# Altium integrated library adafruit.Library.IntLib: 666 symbols (part 3 of 6)
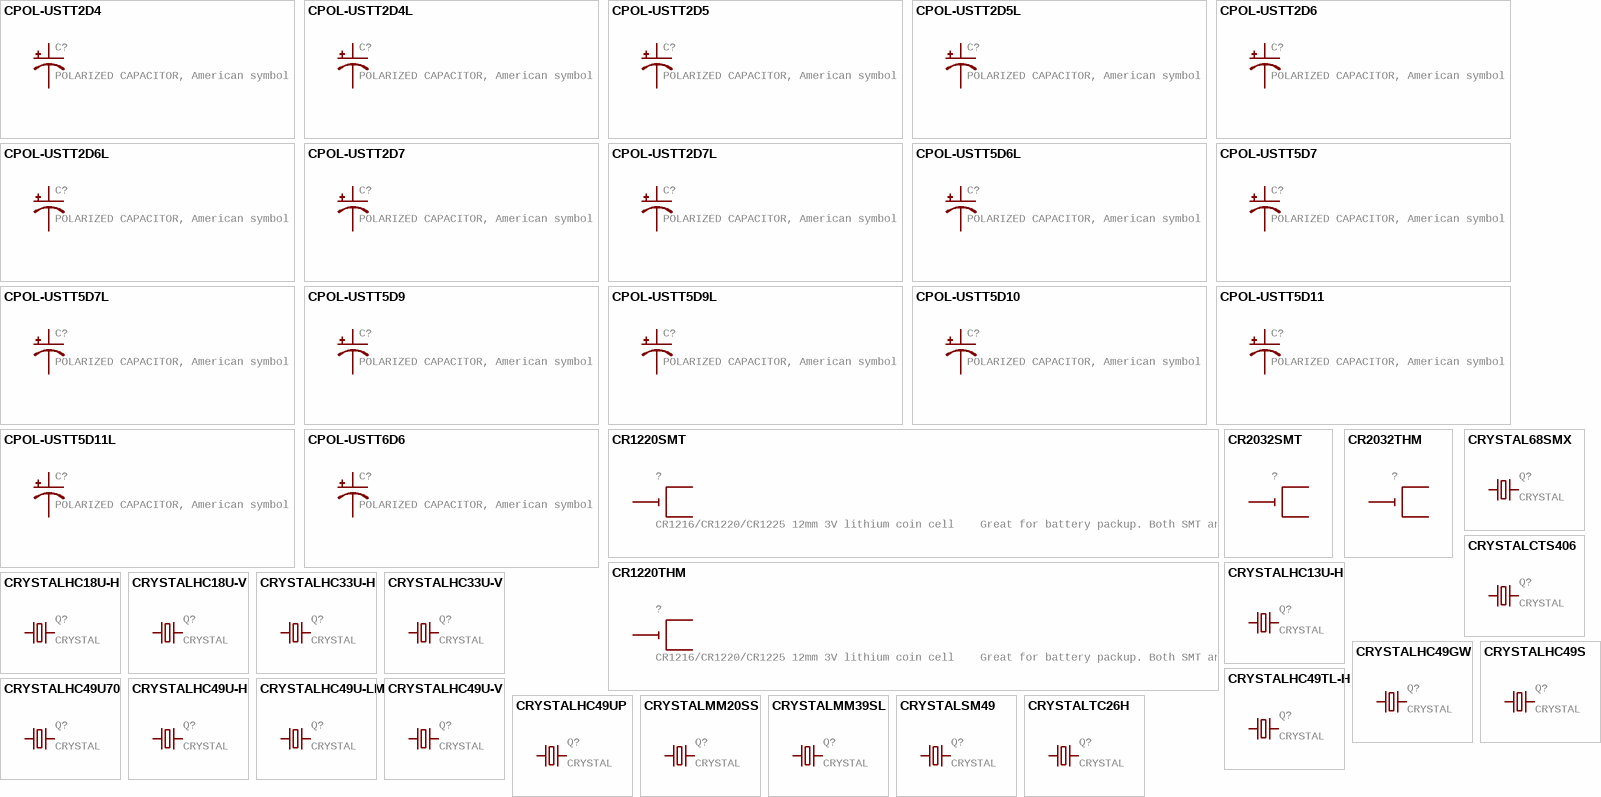
[diagram p29: symbols CPOL-USTT2D4 to CRYSTALTC26H]

## CRYSTALSM49
designator Q?, comment CRYSTAL
GateName_1: G$1; SymbolName_1: Q; DeviceName: SM49; LibraryName: adafruit; DeviceSetName: CRYSTAL; Package: SM49; OC_FARNELL: unknown; OC_NEWARK: unknown
footprint SM49
pins: 1, 2

## CRYSTALTC26H
designator Q?, comment CRYSTAL
GateName_1: G$1; SymbolName_1: Q; DeviceName: TC26H; LibraryName: adafruit; DeviceSetName: CRYSTAL; Package: TC26H; OC_FARNELL: unknown; OC_NEWARK: unknown
footprint TC26H
pins: 1, 2

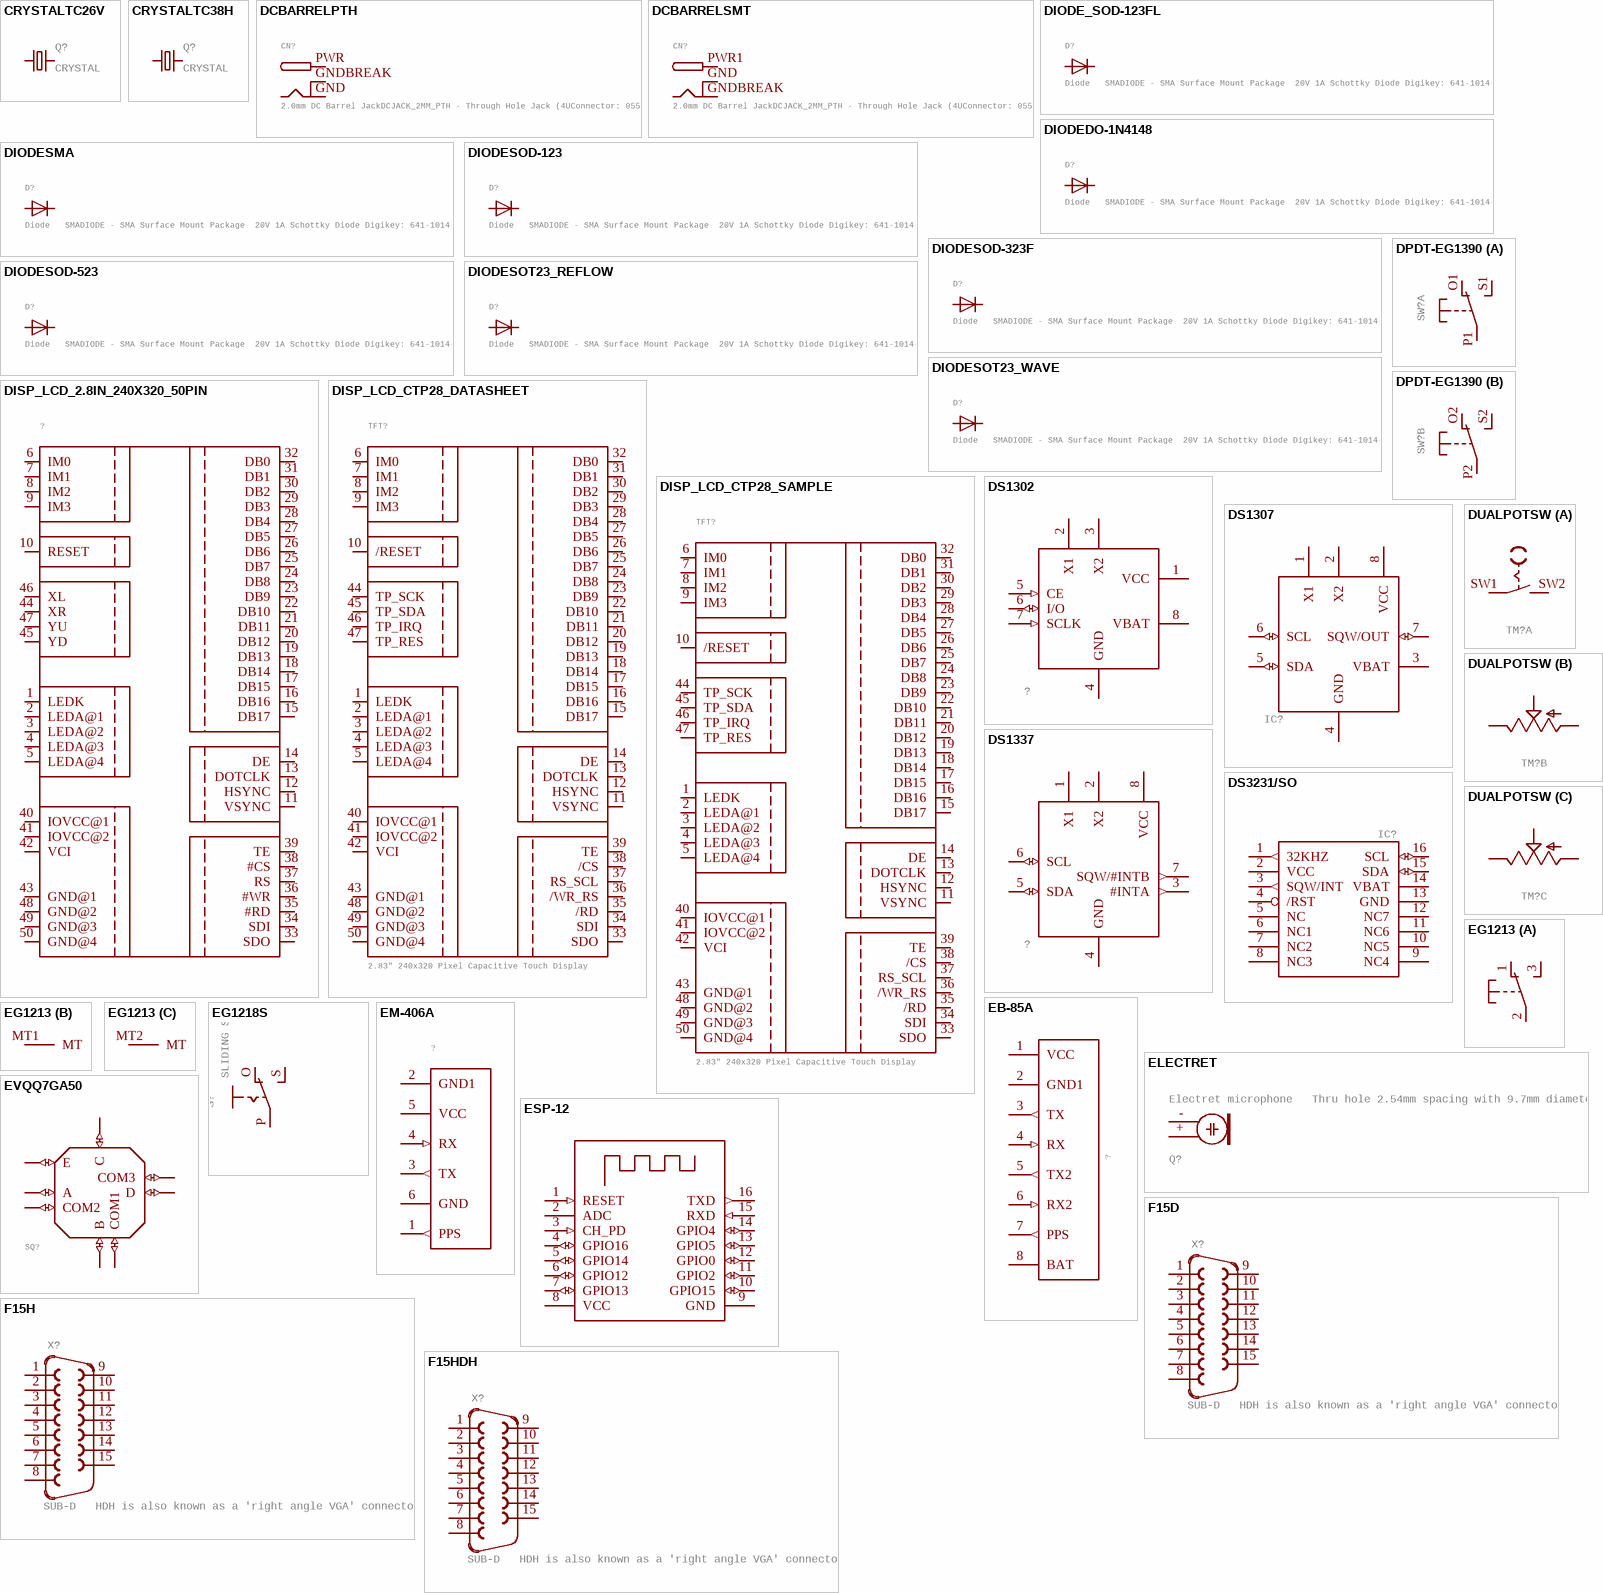
[diagram p14: symbols CRYSTALTC26V to F15HDH]

## CRYSTALTC26V
designator Q?, comment CRYSTAL
GateName_1: G$1; SymbolName_1: Q; DeviceName: TC26V; LibraryName: adafruit; DeviceSetName: CRYSTAL; Package: TC26V; OC_FARNELL: unknown; OC_NEWARK: unknown
footprint TC26V
pins: 1, 2

## CRYSTALTC38H
designator Q?, comment CRYSTAL
GateName_1: G$1; SymbolName_1: Q; DeviceName: TC38H; LibraryName: adafruit; DeviceSetName: CRYSTAL; Package: TC38H; OC_FARNELL: unknown; OC_NEWARK: unknown
footprint TC38H
pins: 1, 2

## DCBARRELPTH
designator CN?, comment 2.0mm DC Barrel JackDCJACK_2MM_PTH - Through Hole Jack (4UConnector: 05537)
GateName_1: G$1; DeviceName: PTH; SymbolName_1: DCBARREL; LibraryName: adafruit; DeviceSetName: DCBARREL; Package: DCJACK_2MM_PTH
footprint DCJACK_2MM_PTH
pins: GND (power), GNDBREAK (power), PWR (power)

## DCBARRELSMT
designator CN?, comment 2.0mm DC Barrel JackDCJACK_2MM_PTH - Through Hole Jack (4UConnector: 05537)
GateName_1: G$1; DeviceName: SMT; SymbolName_1: DCBARREL; LibraryName: adafruit; DeviceSetName: DCBARREL; Package: DCJACK_2MM_SMT
footprint DCJACK_2MM_SMT
pins: GND GNDBREAK (power), GNDBREAK GND (power), PWR1 PWR (power)

## DIODE_SOD-123FL
designator D?, comment Diode   SMADIODE - SMA Surface Mount Package  20V 1A Schottky Diode Digikey: 641-1014-6-ND    DO-1N4148 - Through Hole Small Current Diode SOD-123 20V 1 A (.5mV Vf) Schottky Diode - Digikey: MBRX120TPMSCT-ND    SOD-323 10V 570mA (.38mV Vf, 3ns) Schottky Diode - Digikey: ZLLS410CT-ND    SOD-523 30V 30mA Schottky Diode (RB751S-40TE61) - Digikey: RB751S-40TE61CT-ND    SOT23-R/W - SOT23 Package (R = Solder Paste/Reflow Ovens, W = Hand-Soldering)  BAT54Film 40V 300mA - Digikey: 497-7162-1-ND
GateName_1: G$1; DeviceName: _SOD-123FL; SymbolName_1: DIODE; LibraryName: adafruit; DeviceSetName: DIODE; Package: SOD-123FL
footprint SOD-123FL
pins: A, C

## DIODEDO-1N4148
designator D?, comment Diode   SMADIODE - SMA Surface Mount Package  20V 1A Schottky Diode Digikey: 641-1014-6-ND    DO-1N4148 - Through Hole Small Current Diode SOD-123 20V 1 A (.5mV Vf) Schottky Diode - Digikey: MBRX120TPMSCT-ND    SOD-323 10V 570mA (.38mV Vf, 3ns) Schottky Diode - Digikey: ZLLS410CT-ND    SOD-523 30V 30mA Schottky Diode (RB751S-40TE61) - Digikey: RB751S-40TE61CT-ND    SOT23-R/W - SOT23 Package (R = Solder Paste/Reflow Ovens, W = Hand-Soldering)  BAT54Film 40V 300mA - Digikey: 497-7162-1-ND
GateName_1: G$1; SymbolName_1: DIODE; DeviceName: DO-1N4148; LibraryName: adafruit; DeviceSetName: DIODE; Package: DO-1N4148
footprint DO-1N4148
pins: A, C

## DIODESMA
designator D?, comment Diode   SMADIODE - SMA Surface Mount Package  20V 1A Schottky Diode Digikey: 641-1014-6-ND    DO-1N4148 - Through Hole Small Current Diode SOD-123 20V 1 A (.5mV Vf) Schottky Diode - Digikey: MBRX120TPMSCT-ND    SOD-323 10V 570mA (.38mV Vf, 3ns) Schottky Diode - Digikey: ZLLS410CT-ND    SOD-523 30V 30mA Schottky Diode (RB751S-40TE61) - Digikey: RB751S-40TE61CT-ND    SOT23-R/W - SOT23 Package (R = Solder Paste/Reflow Ovens, W = Hand-Soldering)  BAT54Film 40V 300mA - Digikey: 497-7162-1-ND
GateName_1: G$1; SymbolName_1: DIODE; DeviceName: SMA; LibraryName: adafruit; DeviceSetName: DIODE; Package: SMADIODE
footprint SMADIODE
pins: A, C

## DIODESOD-123
designator D?, comment Diode   SMADIODE - SMA Surface Mount Package  20V 1A Schottky Diode Digikey: 641-1014-6-ND    DO-1N4148 - Through Hole Small Current Diode SOD-123 20V 1 A (.5mV Vf) Schottky Diode - Digikey: MBRX120TPMSCT-ND    SOD-323 10V 570mA (.38mV Vf, 3ns) Schottky Diode - Digikey: ZLLS410CT-ND    SOD-523 30V 30mA Schottky Diode (RB751S-40TE61) - Digikey: RB751S-40TE61CT-ND    SOT23-R/W - SOT23 Package (R = Solder Paste/Reflow Ovens, W = Hand-Soldering)  BAT54Film 40V 300mA - Digikey: 497-7162-1-ND
GateName_1: G$1; SymbolName_1: DIODE; DeviceName: SOD-123; LibraryName: adafruit; DeviceSetName: DIODE; Package: SOD-123
footprint SOD-123
pins: A, C

## DIODESOD-323F
designator D?, comment Diode   SMADIODE - SMA Surface Mount Package  20V 1A Schottky Diode Digikey: 641-1014-6-ND    DO-1N4148 - Through Hole Small Current Diode SOD-123 20V 1 A (.5mV Vf) Schottky Diode - Digikey: MBRX120TPMSCT-ND    SOD-323 10V 570mA (.38mV Vf, 3ns) Schottky Diode - Digikey: ZLLS410CT-ND    SOD-523 30V 30mA Schottky Diode (RB751S-40TE61) - Digikey: RB751S-40TE61CT-ND    SOT23-R/W - SOT23 Package (R = Solder Paste/Reflow Ovens, W = Hand-Soldering)  BAT54Film 40V 300mA - Digikey: 497-7162-1-ND
GateName_1: G$1; DeviceName: SOD-323F; SymbolName_1: DIODE; LibraryName: adafruit; DeviceSetName: DIODE; Package: SOD-323F
footprint SOD-323F
pins: A, C

## DIODESOD-523
designator D?, comment Diode   SMADIODE - SMA Surface Mount Package  20V 1A Schottky Diode Digikey: 641-1014-6-ND    DO-1N4148 - Through Hole Small Current Diode SOD-123 20V 1 A (.5mV Vf) Schottky Diode - Digikey: MBRX120TPMSCT-ND    SOD-323 10V 570mA (.38mV Vf, 3ns) Schottky Diode - Digikey: ZLLS410CT-ND    SOD-523 30V 30mA Schottky Diode (RB751S-40TE61) - Digikey: RB751S-40TE61CT-ND    SOT23-R/W - SOT23 Package (R = Solder Paste/Reflow Ovens, W = Hand-Soldering)  BAT54Film 40V 300mA - Digikey: 497-7162-1-ND
GateName_1: G$1; SymbolName_1: DIODE; DeviceName: SOD-523; LibraryName: adafruit; DeviceSetName: DIODE; Package: SOD-523
footprint SOD-523
pins: A, K C

## DIODESOT23_REFLOW
designator D?, comment Diode   SMADIODE - SMA Surface Mount Package  20V 1A Schottky Diode Digikey: 641-1014-6-ND    DO-1N4148 - Through Hole Small Current Diode SOD-123 20V 1 A (.5mV Vf) Schottky Diode - Digikey: MBRX120TPMSCT-ND    SOD-323 10V 570mA (.38mV Vf, 3ns) Schottky Diode - Digikey: ZLLS410CT-ND    SOD-523 30V 30mA Schottky Diode (RB751S-40TE61) - Digikey: RB751S-40TE61CT-ND    SOT23-R/W - SOT23 Package (R = Solder Paste/Reflow Ovens, W = Hand-Soldering)  BAT54Film 40V 300mA - Digikey: 497-7162-1-ND
GateName_1: G$1; DeviceName: SOT23_REFLOW; SymbolName_1: DIODE; LibraryName: adafruit; DeviceSetName: DIODE; Package: SOT23-R
footprint SOT23-R
pins: 1 A, 3 C

## DIODESOT23_WAVE
designator D?, comment Diode   SMADIODE - SMA Surface Mount Package  20V 1A Schottky Diode Digikey: 641-1014-6-ND    DO-1N4148 - Through Hole Small Current Diode SOD-123 20V 1 A (.5mV Vf) Schottky Diode - Digikey: MBRX120TPMSCT-ND    SOD-323 10V 570mA (.38mV Vf, 3ns) Schottky Diode - Digikey: ZLLS410CT-ND    SOD-523 30V 30mA Schottky Diode (RB751S-40TE61) - Digikey: RB751S-40TE61CT-ND    SOT23-R/W - SOT23 Package (R = Solder Paste/Reflow Ovens, W = Hand-Soldering)  BAT54Film 40V 300mA - Digikey: 497-7162-1-ND
GateName_1: G$1; DeviceName: SOT23_WAVE; SymbolName_1: DIODE; LibraryName: adafruit; DeviceSetName: DIODE; Package: SOT23-W
footprint SOT23-W
pins: 1 A, 3 C

## DISP_LCD_2.8IN_240X320_50PIN
designator ?
GateName_1: G$1; SymbolName_1: TFT_2.83IN_240X320_50PIN; DeviceSetName: DISP_LCD_2.8IN_240X320_50PIN; LibraryName: adafruit; Package: TFT_2.83IN_240X320_50PIN
footprint TFT_2.83IN_240X320_50PIN
pins: 1 LEDK (io), 2 LEDA@1 (io), 3 LEDA@2 (io), 4 LEDA@3 (io), 5 LEDA@4 (io), 6 IM0 (io), 7 IM1 (io), 8 IM2 (io), 9 IM3 (io), 10 RESET (io), 11 VSYNC (io), 12 HSYNC (io), 13 DOTCLK (io), 14 DE (io), 15 DB17 (io), 16 DB16 (io), 17 DB15 (io), 18 DB14 (io), 19 DB13 (io), 20 DB12 (io), 21 DB11 (io), 22 DB10 (io), 23 DB9 (io), 24 DB8 (io), 25 DB7 (io), 26 DB6 (io), 27 DB5 (io), 28 DB4 (io), 29 DB3 (io), 30 DB2 (io), 31 DB1 (io), 32 DB0 (io), 33 SDO (io), 34 SDI (io), 35 #RD (io), 36 #WR (io), 37 RS (io), 38 #CS (io), 39 TE (io), 40 IOVCC@1 (io), 41 IOVCC@2 (io), 42 VCI (io), 43 GND@1 (io), 44 XR (io), 45 YD (io), 46 XL (io), 47 YU (io), 48 GND@2 (io), 49 GND@3 (io), 50 GND@4 (io)

## DISP_LCD_CTP28_DATASHEET
designator TFT?, comment 2.83" 240x320 Pixel Capacitive Touch Display
GateName_1: G$1; SymbolName_1: TFT_CTP28_240X320_50PIN; DeviceName: _DATASHEET; DeviceSetName: DISP_LCD_CTP28; LibraryName: adafruit; Package: TFT_CTP28
footprint TFT_CTP28
pins: 1 LEDK (io), 2 LEDA@1 (io), 3 LEDA@2 (io), 4 LEDA@3 (io), 5 LEDA@4 (io), 6 IM0 (io), 7 IM1 (io), 8 IM2 (io), 9 IM3 (io), 10 /RESET (io), 11 VSYNC (io), 12 HSYNC (io), 13 DOTCLK (io), 14 DE (io), 15 DB17 (io), 16 DB16 (io), 17 DB15 (io), 18 DB14 (io), 19 DB13 (io), 20 DB12 (io), 21 DB11 (io), 22 DB10 (io), 23 DB9 (io), 24 DB8 (io), 25 DB7 (io), 26 DB6 (io), 27 DB5 (io), 28 DB4 (io), 29 DB3 (io), 30 DB2 (io), 31 DB1 (io), 32 DB0 (io), 33 SDO (io), 34 SDI (io), 35 /RD (io), 36 /WR_RS (io), 37 RS_SCL (io), 38 /CS (io), 39 TE (io), 40 IOVCC@1 (io), 41 IOVCC@2 (io), 42 VCI (io), 43 GND@1 (io), 44 TP_SCK (io), 45 TP_SDA (io), 46 TP_IRQ (io), 47 TP_RES (io), 48 GND@2 (io), 49 GND@3 (io), 50 GND@4 (io)

## DISP_LCD_CTP28_SAMPLE
designator TFT?, comment 2.83" 240x320 Pixel Capacitive Touch Display
GateName_1: G$1; SymbolName_1: TFT_CTP28_240X320_50PIN; DeviceName: _SAMPLE; DeviceSetName: DISP_LCD_CTP28; LibraryName: adafruit; Package: TFT_2.83IN_240X320_50PIN
footprint TFT_2.83IN_240X320_50PIN
pins: 1 LEDK (io), 2 LEDA@1 (io), 3 LEDA@2 (io), 4 LEDA@3 (io), 5 LEDA@4 (io), 6 IM0 (io), 7 IM1 (io), 8 IM2 (io), 9 IM3 (io), 10 /RESET (io), 11 VSYNC (io), 12 HSYNC (io), 13 DOTCLK (io), 14 DE (io), 15 DB17 (io), 16 DB16 (io), 17 DB15 (io), 18 DB14 (io), 19 DB13 (io), 20 DB12 (io), 21 DB11 (io), 22 DB10 (io), 23 DB9 (io), 24 DB8 (io), 25 DB7 (io), 26 DB6 (io), 27 DB5 (io), 28 DB4 (io), 29 DB3 (io), 30 DB2 (io), 31 DB1 (io), 32 DB0 (io), 33 SDO (io), 34 SDI (io), 35 /RD (io), 36 /WR_RS (io), 37 RS_SCL (io), 38 /CS (io), 39 TE (io), 40 IOVCC@1 (io), 41 IOVCC@2 (io), 42 VCI (io), 43 GND@1 (io), 44 TP_SCK (io), 45 TP_SDA (io), 46 TP_IRQ (io), 47 TP_RES (io), 48 GND@2 (io), 49 GND@3 (io), 50 GND@4 (io)

## DPDT-EG1390
designator SW?
GateName_1: 1; SymbolName_1: TSU; GateName_2: 2; DeviceName: -EG1390; DeviceSetName: DPDT; SymbolName_2: TSU; LibraryName: adafruit; Package: EG1390
footprint EG1390
part A pins: O1 O, P1 P, S1 S
part B pins: O2 O, P2 P, S2 S

## DS1302
designator ?, comment DS1302 - Real time clock with supercap trickle charger  (value not drawn)
GateName_1: G$1; SymbolName_1: DS1302; LibraryName: adafruit; DeviceSetName: DS1302; Package: DIL08-ROUND
footprint DIL08-ROUND
pins: 1 VCC (power), 2 X1, 3 X2, 4 GND (power), 5 CE (in), 6 I/O (io), 7 SCLK (in), 8 VBAT (power)

## DS1307
designator IC?, comment DS1307   Real time clock (RTC) with battery backup ability. Talk to it via i2c  (value not drawn)
GateName_1: G$1; SymbolName_1: DS1307; LibraryName: adafruit; DeviceSetName: DS1307; Package: DIL08
footprint DIL08
pins: 1 X1, 2 X2, 3 VBAT (power), 4 GND (power), 5 SDA (io), 6 SCL (io), 7 SQW/OUT (io), 8 VCC (power)

## DS1337
designator ?, comment DS1337 - Maxim RTC without battery backup  (value not drawn)
GateName_1: G$1; SymbolName_1: DS1337; LibraryName: adafruit; DeviceSetName: DS1337; Package: DIL08-ROUND
footprint DIL08-ROUND
pins: 1 X1, 2 X2, 3 #INTA (out), 4 GND (power), 5 SDA (io), 6 SCL (io), 7 SQW/#INTB (out), 8 VCC (power)

## DS3231/SO
designator IC?
GateName_1: G$1; SymbolName_1: DS3231; DeviceName: /SO; LibraryName: adafruit; DeviceSetName: DS3231; Package: SO16W
footprint SO16W
pins: 1 32KHZ (out), 2 VCC (power), 3 SQW/INT (out), 4 /RST, 5 NC, 6 NC1, 7 NC2, 8 NC3, 9 NC4, 10 NC5, 11 NC6, 12 NC7, 13 GND (power), 14 VBAT (power), 15 SDA (io), 16 SCL (io)

## DUALPOTSW
designator TM?
GateName_1: SW; GateName_2: P2; SymbolName_2: POT; GateName_3: P1; DeviceSetName: DUALPOTSW; SymbolName_1: SW; SymbolName_3: POT; LibraryName: adafruit; Package: RK0971221
footprint RK0971221
part A pins: SW1 P, SW2 S
part B pins: A2 E, B2 A, W2 S
part C pins: A1 E, B1 A, W1 S

## EB-85A
designator ?
GateName_1: G$1; SymbolName_1: EB-85A; LibraryName: adafruit; DeviceSetName: EB-85A; Package: JST-8POS
footprint JST-8POS
pins: 1 VCC (power), 2 GND1 (power), 3 TX (out), 4 RX (in), 5 TX2 (out), 6 RX2 (in), 7 PPS (out), 8 BAT (power)

## EG1213
designator S?, comment E-Switch right-angle slide SPDT Part #EG1213    http://www.ladyada.net/library/eagle  (value not drawn)
GateName_1: 1; SymbolName_1: TSU; GateName_2: G$1; SymbolName_2: MT; GateName_3: G$2; DeviceSetName: EG1213; SymbolName_3: MT; LibraryName: adafruit; Package: EG1213
footprint EG1213
part A pins: 1 O, 2 P, 3 S
part B pins: MT1 MT
part C pins: MT2 MT

## EG1218S
designator S?, comment SLIDING SWITCH   0.1" spacing through hole, vertical SPDT slide switch    http://www.ladyada.net/library/pcb/eaglelibrary.html
GateName_1: 1; SymbolName_1: SIS; DeviceName: S; DeviceSetName: EG1218; LibraryName: adafruit; Package: EG1218
footprint EG1218
pins: O, P, S

## ELECTRET
designator Q?, comment Electret microphone   Thru hole 2.54mm spacing with 9.7mm diameter
GateName_1: G$1; SymbolName_1: ELECTRET; LibraryName: adafruit; DeviceSetName: ELECTRET; Package: 9.7ELECTRET
footprint 9.7ELECTRET
pins: + 2, - 1

## EM-406A
designator ?
GateName_1: G$1; SymbolName_1: EM-406A; LibraryName: adafruit; DeviceSetName: EM-406A; Package: JST-6POS
footprint JST-6POS
pins: 1 PPS (out), 2 GND1 (power), 3 TX (out), 4 RX (in), 5 VCC (power), 6 GND (power)

## ESP-12
designator X?
GateName_1: G$1; SymbolName_1: ESP8266-12; DeviceSetName: ESP-12; LibraryName: adafruit; Package: ESP-12
footprint ESP-12
pins: 1 RESET (in), 2 ADC, 3 CH_PD (in), 4 GPIO16 (io), 5 GPIO14 (io), 6 GPIO12 (io), 7 GPIO13 (io), 8 VCC (power), 9 GND (power), 10 GPIO15 (io), 11 GPIO2 (io), 12 GPIO0 (io), 13 GPIO5 (io), 14 GPIO4 (io), 15 RXD (in), 16 TXD (out)

## EVQQ7GA50
designator SQ?
GateName_1: G$1; SymbolName_1: NAVSWITCH; DeviceName: GA50; DeviceSetName: EVQQ7; LibraryName: adafruit; Package: EVQQ7GA50
footprint EVQQ7GA50
pins: A (io), B (io), C (io), COM1 (io), COM2 (io), COM3 (io), D (io), E (io)

## F15D
designator X?, comment SUB-D   HDH is also known as a 'right angle VGA' connector
GateName_1: -1; SymbolName_1: F15; DeviceName: D; LibraryName: adafruit; DeviceSetName: F15; Package: F15D
footprint F15D
pins: 1, 2, 3, 4, 5, 6, 7, 8, 9, 10, 11, 12, 13, 14, 15

## F15H
designator X?, comment SUB-D   HDH is also known as a 'right angle VGA' connector
GateName_1: -1; SymbolName_1: F15; DeviceName: H; LibraryName: adafruit; DeviceSetName: F15; Package: F15H
footprint F15H
pins: 1, 2, 3, 4, 5, 6, 7, 8, 9, 10, 11, 12, 13, 14, 15

## F15HDH
designator X?, comment SUB-D   HDH is also known as a 'right angle VGA' connector
GateName_1: -1; SymbolName_1: F15; DeviceName: HDH; LibraryName: adafruit; DeviceSetName: F15; Package: HDF15H
footprint HDF15H
pins: 1, 2, 3, 4, 5, 6, 7, 8, 9, 10, 11, 12, 13, 14, 15

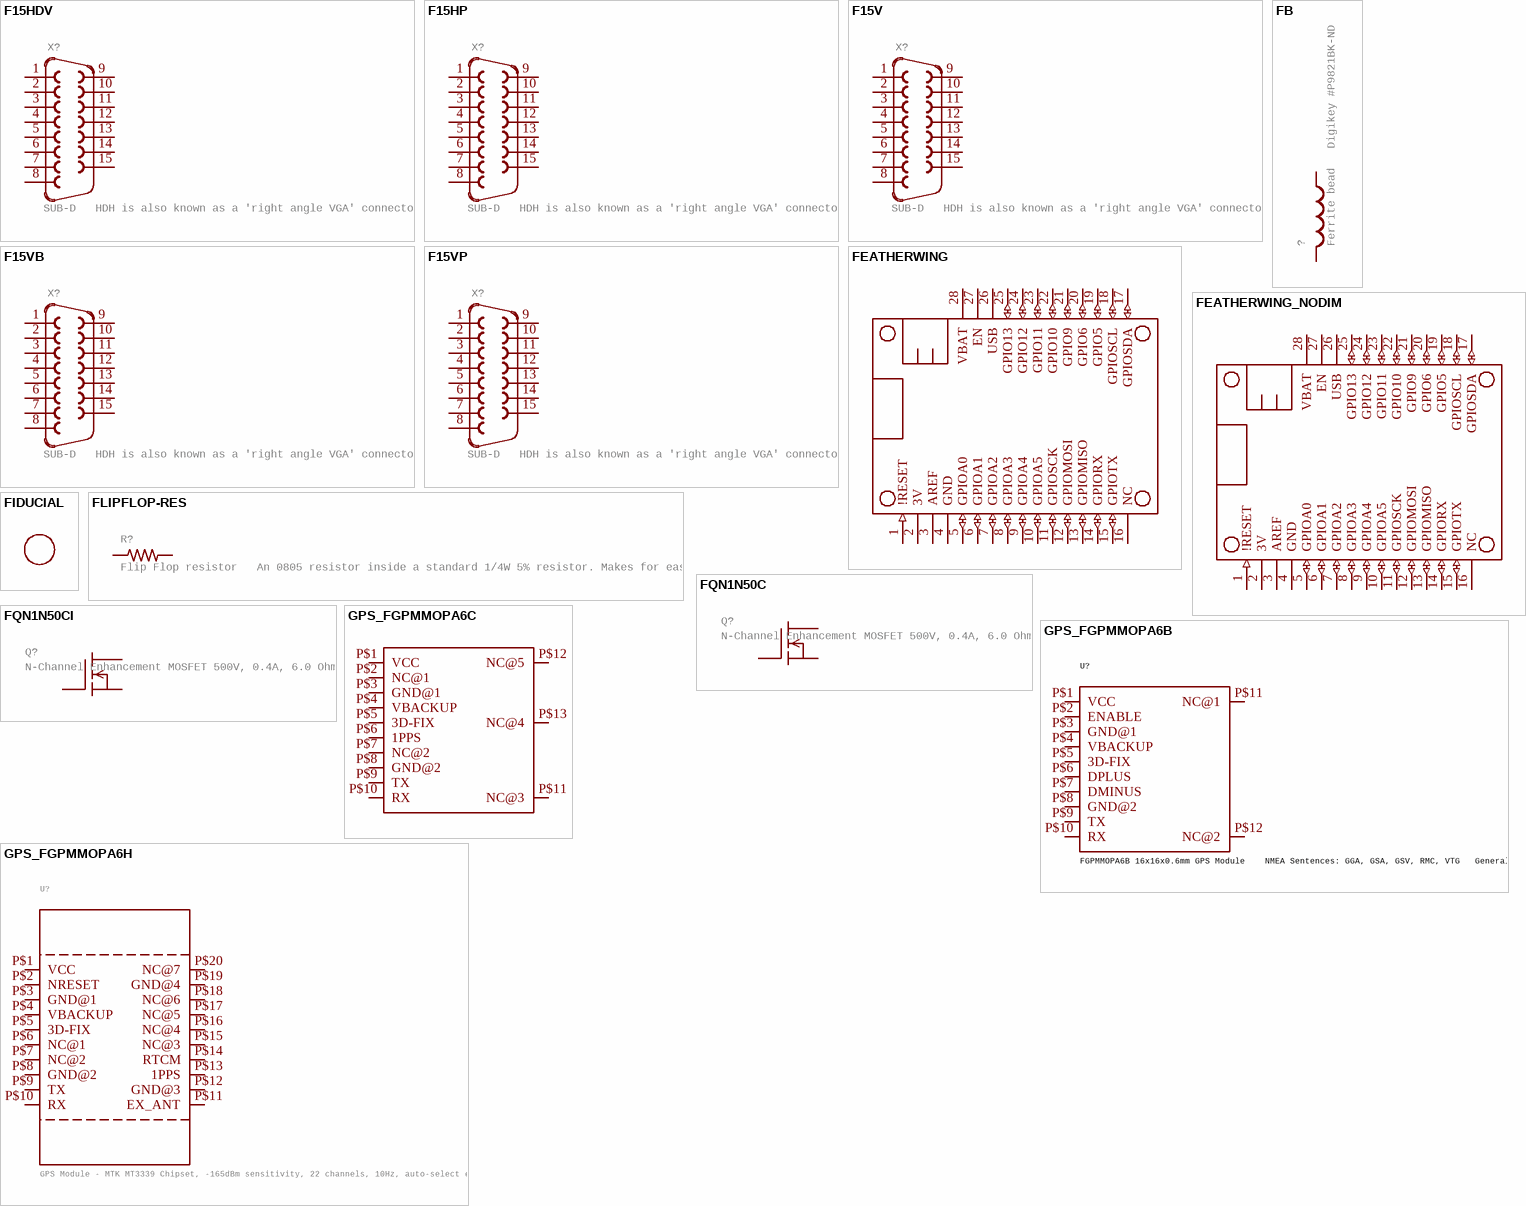
[diagram p15: symbols F15HDV to GPS_FGPMMOPA6H]

## F15HDV
designator X?, comment SUB-D   HDH is also known as a 'right angle VGA' connector
GateName_1: -1; SymbolName_1: F15; DeviceName: HDV; LibraryName: adafruit; DeviceSetName: F15; Package: HDF15V
footprint HDF15V
pins: 1, 2, 3, 4, 5, 6, 7, 8, 9, 10, 11, 12, 13, 14, 15

## F15HP
designator X?, comment SUB-D   HDH is also known as a 'right angle VGA' connector
GateName_1: -1; SymbolName_1: F15; DeviceName: HP; LibraryName: adafruit; DeviceSetName: F15; Package: F15HP
footprint F15HP
pins: 1, 2, 3, 4, 5, 6, 7, 8, 9, 10, 11, 12, 13, 14, 15

## F15V
designator X?, comment SUB-D   HDH is also known as a 'right angle VGA' connector
GateName_1: -1; SymbolName_1: F15; DeviceName: V; LibraryName: adafruit; DeviceSetName: F15; Package: F15V
footprint F15V
pins: 1, 2, 3, 4, 5, 6, 7, 8, 9, 10, 11, 12, 13, 14, 15

## F15VB
designator X?, comment SUB-D   HDH is also known as a 'right angle VGA' connector
GateName_1: -1; SymbolName_1: F15; DeviceName: VB; LibraryName: adafruit; DeviceSetName: F15; Package: F15VB
footprint F15VB
pins: 1, 2, 3, 4, 5, 6, 7, 8, 9, 10, 11, 12, 13, 14, 15

## F15VP
designator X?, comment SUB-D   HDH is also known as a 'right angle VGA' connector
GateName_1: -1; SymbolName_1: F15; DeviceName: VP; LibraryName: adafruit; DeviceSetName: F15; Package: F15VP
footprint F15VP
pins: 1, 2, 3, 4, 5, 6, 7, 8, 9, 10, 11, 12, 13, 14, 15

## FB
designator ?, comment Ferrite bead   Digikey #P9821BK-ND
GateName_1: G$1; SymbolName_1: FB; LibraryName: adafruit; DeviceSetName: FB; Package: FB
footprint FB
pins: P$1 1, P$2 2

## FEATHERWING
designator MS?
GateName_1: G$1; SymbolName_1: MICROSHIELD; DeviceSetName: FEATHERWING; LibraryName: adafruit; Package: FEATHERWING
footprint FEATHERWING
pins: 1 !RESET (in), 2 3V (power), 3 AREF, 4 GND (power), 5 GPIOA0 (io), 6 GPIOA1 (io), 7 GPIOA2 (io), 8 GPIOA3 (io), 9 GPIOA4 (io), 10 GPIOA5 (io), 11 GPIOSCK (io), 12 GPIOMOSI (io), 13 GPIOMISO (io), 14 GPIORX (io), 15 GPIOTX (io), 16 NC, 17 GPIOSDA (io), 18 GPIOSCL (io), 19 GPIO5 (io), 20 GPIO6 (io), 21 GPIO9 (io), 22 GPIO10 (io), 23 GPIO11 (io), 24 GPIO12 (io), 25 GPIO13 (io), 26 USB (power), 27 EN, 28 VBAT (power)

## FEATHERWING_NODIM
designator MS?
GateName_1: G$1; SymbolName_1: MICROSHIELD; DeviceName: _NODIM; DeviceSetName: FEATHERWING; LibraryName: adafruit; Package: FEATHERWING_DIM
footprint FEATHERWING_DIM
pins: 1 !RESET (in), 2 3V (power), 3 AREF, 4 GND (power), 5 GPIOA0 (io), 6 GPIOA1 (io), 7 GPIOA2 (io), 8 GPIOA3 (io), 9 GPIOA4 (io), 10 GPIOA5 (io), 11 GPIOSCK (io), 12 GPIOMOSI (io), 13 GPIOMISO (io), 14 GPIORX (io), 15 GPIOTX (io), 16 NC, 17 GPIOSDA (io), 18 GPIOSCL (io), 19 GPIO5 (io), 20 GPIO6 (io), 21 GPIO9 (io), 22 GPIO10 (io), 23 GPIO11 (io), 24 GPIO12 (io), 25 GPIO13 (io), 26 USB (power), 27 EN, 28 VBAT (power)

## FIDUCIAL
designator ?, comment For use by pick and place machines to calibrate the vision/machine, 1mm    By microbuilder.eu  (value not drawn)
GateName_1: G$1; SymbolName_1: DOT; DeviceSetName: FIDUCIAL; LibraryName: adafruit; Package: FIDUCIAL_1MM
footprint FIDUCIAL_1MM

## FLIPFLOP-RES
designator R?, comment Flip Flop resistor   An 0805 resistor inside a standard 1/4W 5% resistor. Makes for easy mods
GateName_1: G$1; SymbolName_1: R-US; DeviceSetName: FLIPFLOP-RES; LibraryName: adafruit; Package: 0805-THM
footprint 0805-THM
pins: 1, 2

## FQN1N50C
designator Q?, comment N-Channel Enhancement MOSFET 500V, 0.4A, 6.0 Ohm
GateName_1: G$1; SymbolName_1: IGFET-EN-GDS; DeviceSetName: FQN1N50C; LibraryName: adafruit; Package: TO92
footprint TO92
pins: 1 G, 2 D, 3 S

## FQN1N50CI
designator Q?, comment N-Channel Enhancement MOSFET 500V, 0.4A, 6.0 Ohm
GateName_1: G$1; SymbolName_1: IGFET-EN-GDS; DeviceName: I; DeviceSetName: FQN1N50C; LibraryName: adafruit; Package: TO92-INLINE
footprint TO92-INLINE
pins: 1 D, 2 G, 3 S

## GPS_FGPMMOPA6B
designator U?, comment FGPMMOPA6B 16x16x0.6mm GPS Module    NMEA Sentences: GGA, GSA, GSV, RMC, VTG   General Specifications Chipset: MTK MT3329  Baud Rate: 9600bps (default)  Update Rate: 1Hz (default)  Cold Start: ~35s  Operating Temp: -40 to 85Â°C       DC Characteristics Supply Voltage: 3.2-5.0V  Backup Battery Voltage: 2.0-4.3V  Digital Logic (UART): 3.3V  I(Tracking): 42mA  I(Acquisition): 53mA  I(BackupBattery): 10uA
GateName_1: G$1; DeviceSetName: GPS_FGPMMOPA6B; SymbolName_1: FGPMMOPA6B; LibraryName: adafruit; Package: FGPMMOPA6B
footprint FGPMMOPA6B
pins: P$1 VCC (io), P$2 ENABLE (io), P$3 GND@1 (io), P$4 VBACKUP (io), P$5 3D-FIX (io), P$6 DPLUS (io), P$7 DMINUS (io), P$8 GND@2 (io), P$9 TX (io), P$10 RX (io), P$11 NC@1 (io), P$12 NC@2 (io)

## GPS_FGPMMOPA6C
designator U?, comment FGPMMOPA6C 16x16 GPS Module    NMEA Sentences: GGA, GSA, GSV, RMC, VTG  (value not drawn)
GateName_1: G$1; DeviceSetName: GPS_FGPMMOPA6C; SymbolName_1: FGPMMOPA6C; LibraryName: adafruit; Package: FGPMMOPA6C
footprint FGPMMOPA6C
pins: P$1 VCC (io), P$2 NC@1 (io), P$3 GND@1 (io), P$4 VBACKUP (io), P$5 3D-FIX (io), P$6 1PPS (io), P$7 NC@2 (io), P$8 GND@2 (io), P$9 TX (io), P$10 RX (io), P$11 NC@3 (io), P$12 NC@5 (io), P$13 NC@4 (io)

## GPS_FGPMMOPA6H
designator U?, comment GPS Module - MTK MT3339 Chipset, -165dBm sensitivity, 22 channels, 10Hz, auto-select external antenna options
GateName_1: G$1; SymbolName_1: FGPMMOPA6H; DeviceSetName: GPS_FGPMMOPA6H; LibraryName: adafruit; Package: FGPMMOPA6H
footprint FGPMMOPA6H
pins: P$1 VCC (io), P$2 NRESET (io), P$3 GND@1 (io), P$4 VBACKUP (io), P$5 3D-FIX (io), P$6 NC@1 (io), P$7 NC@2 (io), P$8 GND@2 (io), P$9 TX (io), P$10 RX (io), P$11 EX_ANT (io), P$12 GND@3 (io), P$13 1PPS (io), P$14 RTCM (io), P$15 NC@3 (io), P$16 NC@4 (io), P$17 NC@5 (io), P$18 NC@6 (io), P$19 GND@4 (io), P$20 NC@7 (io)

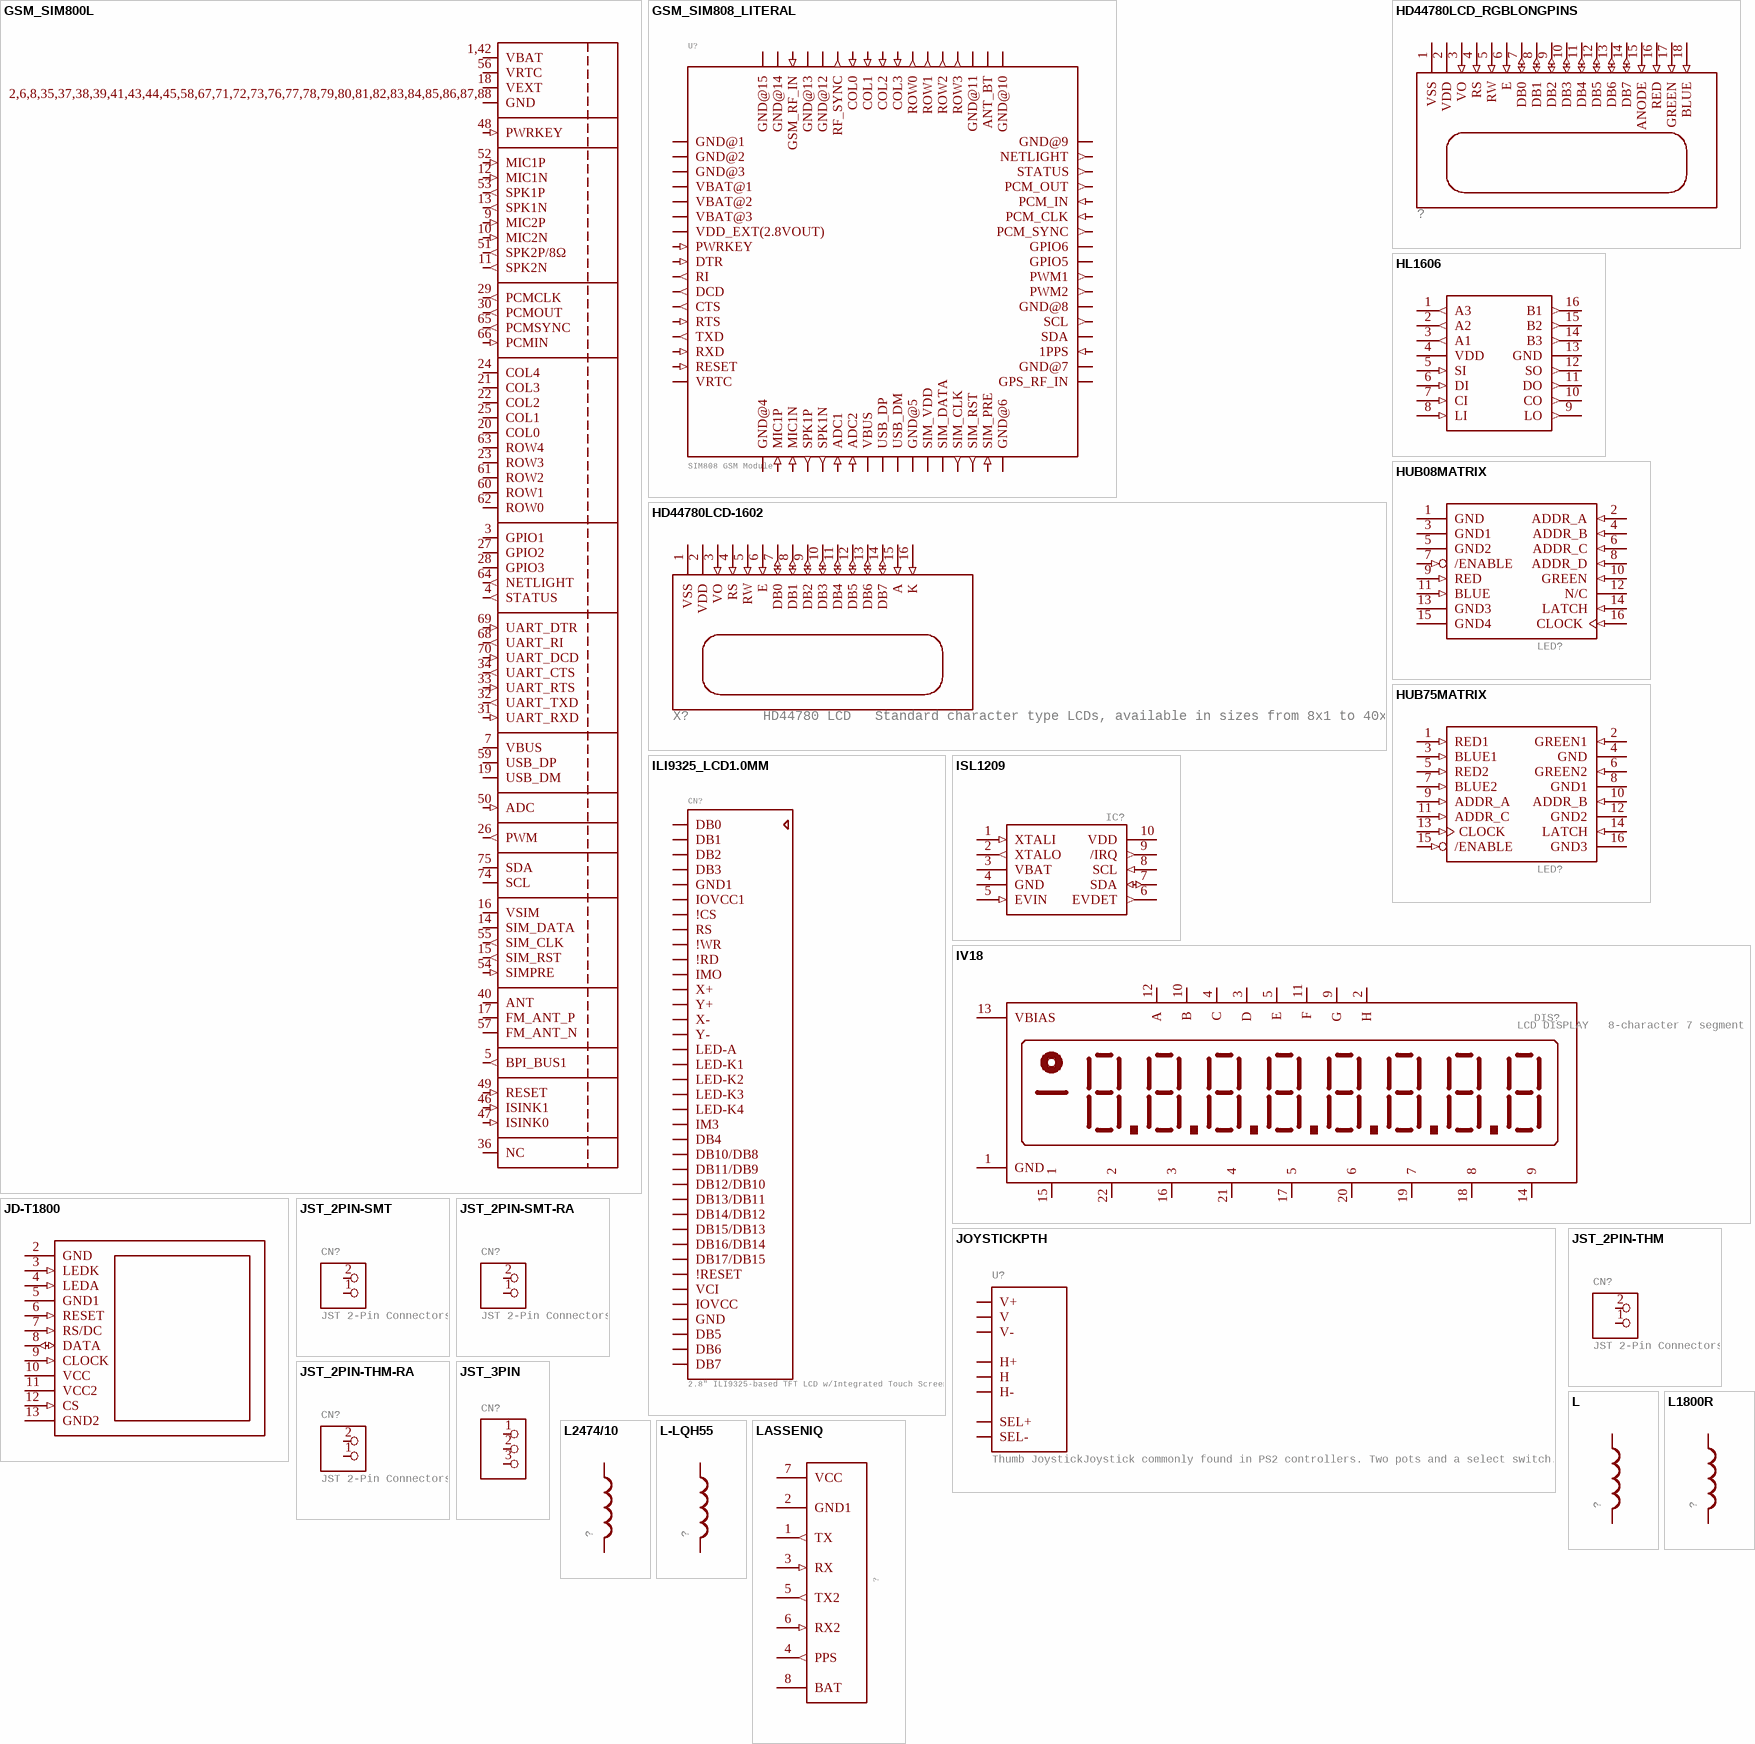
[diagram p16: symbols GSM_SIM800L to LASSENIQ]

## GSM_SIM800L
designator U?, comment SIM800K Quad-Band GSM/GPRS Module 850/900/1800/1900 MHz  Bluetooth EDR (3.0)  FM Band: 76-109MHz (50kHz steps)  -40 - 85Â°C  (value not drawn)
GateName_1: G$1; SymbolName_1: SIM800L; DeviceSetName: GSM_SIM800L; LibraryName: adafruit; Package: SIM800L
footprint SIM800L
pins: 1,42 VBAT (power), 2,6,8,35,37,38,39,41,43,44,45,58,67,71,72,73,76,77,78,79,80,81,82,83,84,85,86,87,88 GND (power), 3 GPIO1 (io), 4 STATUS (out), 5 BPI_BUS1 (out), 7 VBUS (power), 9 MIC2P (in), 10 MIC2N (in), 11 SPK2N (out), 12 MIC1N (in), 13 SPK1N (out), 14 SIM_DATA (io), 15 SIM_RST (out), 16 VSIM (power), 17 FM_ANT_P (io), 18 VEXT (power), 19 USB_DM (io), 20 COL0 (io), 21 COL3 (io), 22 COL2 (io), 23 ROW3 (io), 24 COL4 (io), 25 COL1 (io), 26 PWM (out), 27 GPIO2 (io), 28 GPIO3 (io), 29 PCMCLK (out), 30 PCMOUT (out), 31 UART_RXD (in), 32 UART_TXD (out), 33 UART_RTS (in), 34 UART_CTS (out), 36 NC, 40 ANT (io), 46 ISINK1 (in), 47 ISINK0 (in), 48 PWRKEY (in), 49 RESET (in), 50 ADC (in), 51 SPK2P/8Ω (out), 52 MIC1P (in), 53 SPK1P (out), 54 SIMPRE (in), 55 SIM_CLK (out), 56 VRTC (power), 57 FM_ANT_N (io), 59 USB_DP (io), 60 ROW1 (io), 61 ROW2 (io), 62 ROW0 (io), 63 ROW4 (io), 64 NETLIGHT (out), 65 PCMSYNC (out), 66 PCMIN (in), 68 UART_RI (out), 69 UART_DTR (in), 70 UART_DCD (in), 74 SCL (io), 75 SDA (io)

## GSM_SIM808_LITERAL
designator U?, comment SIM808 GSM Module
GateName_1: G$1; SymbolName_1: SIM808_LITERAL; DeviceSetName: GSM_SIM808_LITERAL; LibraryName: adafruit; Package: SIM900_SMT
footprint SIM900_SMT
pins: P$1 GND@1 (power), P$2 GND@2 (power), P$3 GND@3 (power), P$4 VBAT@1 (power), P$5 VBAT@2 (power), P$6 VBAT@3 (power), P$7 VDD_EXT(2.8VOUT) (power), P$8 PWRKEY (in), P$9 DTR (in), P$10 RI (out), P$11 DCD (out), P$12 CTS (out), P$13 RTS (in), P$14 TXD (out), P$15 RXD (in), P$16 RESET (in), P$17 VRTC (power), P$18 GND@4 (power), P$19 MIC1P (in), P$20 MIC1N (in), P$21 SPK1P (out), P$22 SPK1N (out), P$23 ADC1 (in), P$24 ADC2 (in), P$25 VBUS (power), P$26 USB_DP (io), P$27 USB_DM (io), P$28 GND@5 (power), P$29 SIM_VDD (power), P$30 SIM_DATA (io), P$31 SIM_CLK (out), P$32 SIM_RST (out), P$33 SIM_PRE (in), P$34 GND@6 (power), P$35 GPS_RF_IN (io), P$36 GND@7 (power), P$37 1PPS (in), P$38 SDA (io), P$39 SCL (out), P$40 GND@8 (power), P$41 PWM2 (out), P$42 PWM1 (out), P$43 GPIO5 (io), P$44 GPIO6 (io), P$45 PCM_SYNC (out), P$46 PCM_CLK (in), P$47 PCM_IN (in), P$48 PCM_OUT (out), P$49 STATUS (out), P$50 NETLIGHT (out), P$51 GND@9 (power), P$52 GND@10 (power), P$53 ANT_BT (io), P$54 GND@11 (power), P$55 ROW3 (out), P$56 ROW2 (out), P$57 ROW1 (out), P$58 ROW0 (out), P$59 COL3 (in), P$60 COL2 (in), P$61 COL1 (in), P$62 COL0 (in), P$63 RF_SYNC (out), P$64 GND@12 (power), P$65 GND@13 (power), P$66 GSM_RF_IN (in), P$67 GND@14 (power), P$68 GND@15 (power)

## HD44780LCD-1602
designator X?, comment HD44780 LCD   Standard character type LCDs, available in sizes from 8x1 to 40x4!
GateName_1: G$1; SymbolName_1: CLCD; DeviceName: -1602; LibraryName: adafruit; DeviceSetName: HD44780LCD; Package: LCD1602
footprint LCD1602
pins: 1 VSS (power), 2 VDD (power), 3 VO (in), 4 RS (in), 5 RW (in), 6 E (in), 7 DB0 (io), 8 DB1 (io), 9 DB2 (io), 10 DB3 (io), 11 DB4 (io), 12 DB5 (io), 13 DB6 (io), 14 DB7 (io), 15 A (in), 16 K (in)

## HD44780LCD_RGBLONGPINS
designator ?
GateName_1: G$1; SymbolName_1: CHARLCD_RGB; DeviceName: LONGPINS; DeviceSetName: HD44780LCD_RGB; LibraryName: adafruit; Package: LCD1602-RGB
footprint LCD1602-RGB
pins: 1 VSS (power), 2 VDD (power), 3 VO (in), 4 RS (in), 5 RW (in), 6 E (in), 7 DB0 (io), 8 DB1 (io), 9 DB2 (io), 10 DB3 (io), 11 DB4 (io), 12 DB5 (io), 13 DB6 (io), 14 DB7 (io), 15 ANODE (in), 16 RED (in), 17 GREEN (in), 18 BLUE (in)

## HL1606
designator ?
GateName_1: G$1; SymbolName_1: HL1606; LibraryName: adafruit; DeviceSetName: HL1606; Package: SO16
footprint SO16
pins: 1 A3 (out), 2 A2 (out), 3 A1 (out), 4 VDD (power), 5 SI (in), 6 DI (in), 7 CI (in), 8 LI (in), 9 LO (out), 10 CO (out), 11 DO (out), 12 SO (out), 13 GND (power), 14 B3 (out), 15 B2 (out), 16 B1 (out)

## HUB08MATRIX
designator LED?
GateName_1: G$1; SymbolName_1: HUB08_IDC; DeviceSetName: HUB08MATRIX; LibraryName: adafruit; Package: 2X08-IDC
footprint 2X08-IDC
pins: 1 GND (power), 2 ADDR_A (in), 3 GND1 (power), 4 ADDR_B (in), 5 GND2 (power), 6 ADDR_C (in), 7 /ENABLE (in), 8 ADDR_D (in), 9 RED (in), 10 GREEN (in), 11 BLUE (in), 12 N/C, 13 GND3 (power), 14 LATCH (in), 15 GND4 (power), 16 CLOCK (in)

## HUB75MATRIX
designator LED?
GateName_1: G$1; SymbolName_1: HUB75_IDC; DeviceSetName: HUB75MATRIX; LibraryName: adafruit; Package: 2X08-IDC
footprint 2X08-IDC
pins: 1 RED1 (in), 2 GREEN1 (in), 3 BLUE1 (in), 4 GND (power), 5 RED2 (in), 6 GREEN2 (in), 7 BLUE2 (in), 8 GND1 (power), 9 ADDR_A (in), 10 ADDR_B (in), 11 ADDR_C (in), 12 GND2 (power), 13 CLOCK (in), 14 LATCH (in), 15 /ENABLE (in), 16 GND3 (power)

## ILI9325_LCD1.0MM
designator CN?, comment 2.8" ILI9325-based TFT LCD w/Integrated Touch Screen
GateName_1: G$1; SymbolName_1: ILI9325_LCD; DeviceName: 1.0MM; LibraryName: adafruit; DeviceSetName: ILI9325_LCD; Package: ILI9325_28INCH_TS
footprint ILI9325_28INCH_TS
pins: 1 DB0, 2 DB1, 3 DB2, 4 DB3, 5 GND1 (power), 6 IOVCC1 (power), 7 !CS, 8 RS, 9 !WR, 10 !RD, 11 IMO, 12 X+, 13 Y+, 14 X-, 15 Y-, 16 LED-A, 17 LED-K1, 18 LED-K2, 19 LED-K3, 20 LED-K4, 21 IM3, 22 DB4, 23 DB10/DB8, 24 DB11/DB9, 25 DB12/DB10, 26 DB13/DB11, 27 DB14/DB12, 28 DB15/DB13, 29 DB16/DB14, 30 DB17/DB15, 31 !RESET, 32 VCI (power), 33 IOVCC (power), 34 GND (power), 35 DB5, 36 DB6, 37 DB7

## ISL1209
designator IC?, comment ISL1209   Low Power RTC with Battery Backed SRAM and Event Detection    The ISL1209 device is a low power real time clock with event detect function, timing and crystal compensation, clock/calendar, power fail indicator, periodic or polled alarm, intelligent battery backup switching and battery-backed user SRAM.  (value not drawn)
GateName_1: G$1; SymbolName_1: ISL1209; LibraryName: adafruit; DeviceSetName: ISL1209; Package: MSOP10
footprint MSOP10
pins: 1 XTALI (in), 2 XTALO (out), 3 VBAT (power), 4 GND (power), 5 EVIN (in), 6 EVDET (out), 7 SDA (io), 8 SCL (in), 9 /IRQ (out), 10 VDD (power)

## IV18
designator DIS?, comment LCD DISPLAY   8-character 7 segment
GateName_1: G$1; SymbolName_1: LS026; DeviceSetName: IV18; LibraryName: adafruit; Package: IV18
footprint IV18
pins: 1 GND (power), 2 H, 3 D, 4 C, 5 E, 9 G, 10 B, 11 F, 12 A, 13 VBIAS (power), 14 9, 15 1, 16 3, 17 5, 18 8, 19 7, 20 6, 21 4, 22 2

## JD-T1800
designator LCD?
GateName_1: G$1; SymbolName_1: JD-T1800; LibraryName: adafruit; DeviceSetName: JD-T1800; Package: JD-T1800
footprint JD-T1800
pins: 2 GND (power), 3 LEDK (in), 4 LEDA (in), 5 GND1 (power), 6 RESET (in), 7 RS/DC (in), 8 DATA (io), 9 CLOCK (in), 10 VCC (power), 11 VCC2 (power), 12 CS (in), 13 GND2 (power)

## JOYSTICKPTH
designator U?, comment Thumb JoystickJoystick commonly found in PS2 controllers. Two pots and a select switch. Adapted from Sparkfun Library (but for more common 6mm switch sticks)
GateName_1: G$1; DeviceName: PTH; SymbolName_1: JOYSTICK; LibraryName: adafruit; DeviceSetName: JOYSTICK; Package: JOYSTICK
footprint JOYSTICK
pins: B1A SEL+ (io), B2A SEL- (io), H1 H+ (io), H2 H (io), H3 H- (io), V1 V+ (io), V2 V (io), V3 V- (io)

## JST_2PIN-SMT
designator CN?, comment JST 2-Pin Connectors of various flavors SMT-RA (S2B-PH-SM4) 4UConnector #17311  SMT  (B2B-PH-SM4)  THM-RA (S2B-PH)  THM  (B2B-PH)
GateName_1: G$1; SymbolName_1: PINHD2; DeviceName: -SMT; DeviceSetName: JST_2PIN; LibraryName: adafruit; Package: JST-PH-2-SMT
footprint JST-PH-2-SMT
pins: 1 2, 2 1

## JST_2PIN-SMT-RA
designator CN?, comment JST 2-Pin Connectors of various flavors SMT-RA (S2B-PH-SM4) 4UConnector #17311  SMT  (B2B-PH-SM4)  THM-RA (S2B-PH)  THM  (B2B-PH)
GateName_1: G$1; SymbolName_1: PINHD2; DeviceName: -SMT-RA; DeviceSetName: JST_2PIN; LibraryName: adafruit; Package: JST-PH-2-SMT-RA
footprint JST-PH-2-SMT-RA
pins: 1 2, 2 1

## JST_2PIN-THM
designator CN?, comment JST 2-Pin Connectors of various flavors SMT-RA (S2B-PH-SM4) 4UConnector #17311  SMT  (B2B-PH-SM4)  THM-RA (S2B-PH)  THM  (B2B-PH)
GateName_1: G$1; SymbolName_1: PINHD2; DeviceName: -THM; DeviceSetName: JST_2PIN; LibraryName: adafruit; Package: JST-PH-2-THM
footprint JST-PH-2-THM
pins: 1 2, 2 1

## JST_2PIN-THM-RA
designator CN?, comment JST 2-Pin Connectors of various flavors SMT-RA (S2B-PH-SM4) 4UConnector #17311  SMT  (B2B-PH-SM4)  THM-RA (S2B-PH)  THM  (B2B-PH)
GateName_1: G$1; SymbolName_1: PINHD2; DeviceName: -THM-RA; DeviceSetName: JST_2PIN; LibraryName: adafruit; Package: JST-PH-2-THM-RA
footprint JST-PH-2-THM-RA
pins: 1 2, 2 1

## JST_3PIN
designator CN?
GateName_1: G$1; SymbolName_1: PINHD3; DeviceSetName: JST_3PIN; LibraryName: adafruit; Package: JSTPH3
footprint JSTPH3
pins: 1, 2, 3

## L
designator ?
GateName_1: G$1; SymbolName_1: L; LibraryName: adafruit; DeviceSetName: L; Package: 6000
footprint 6000
pins: 1, 2

## L1800R
designator ?
GateName_1: G$1; SymbolName_1: L; DeviceName: 1800R; LibraryName: adafruit; DeviceSetName: L; Package: 1800R
footprint 1800R
pins: 1, 2

## L2474/10
designator ?
GateName_1: G$1; SymbolName_1: L; DeviceName: 2474/10; LibraryName: adafruit; DeviceSetName: L; Package: 2747
footprint 2747
pins: P$1 1, P$2 2

## L-LQH55
designator ?
GateName_1: G$1; SymbolName_1: L; DeviceName: -LQH55; LibraryName: adafruit; DeviceSetName: L; Package: LQH55
footprint LQH55
pins: 1, 2

## LASSENIQ
designator ?
GateName_1: G$1; SymbolName_1: EB-85A; DeviceSetName: LASSENIQ; LibraryName: adafruit; Package: TRIMBLE
footprint TRIMBLE
pins: 1 TX (out), 2 GND1 (power), 3 RX (in), 4 PPS (out), 5 TX2 (out), 6 RX2 (in), 7 VCC (power), 8 BAT (power)

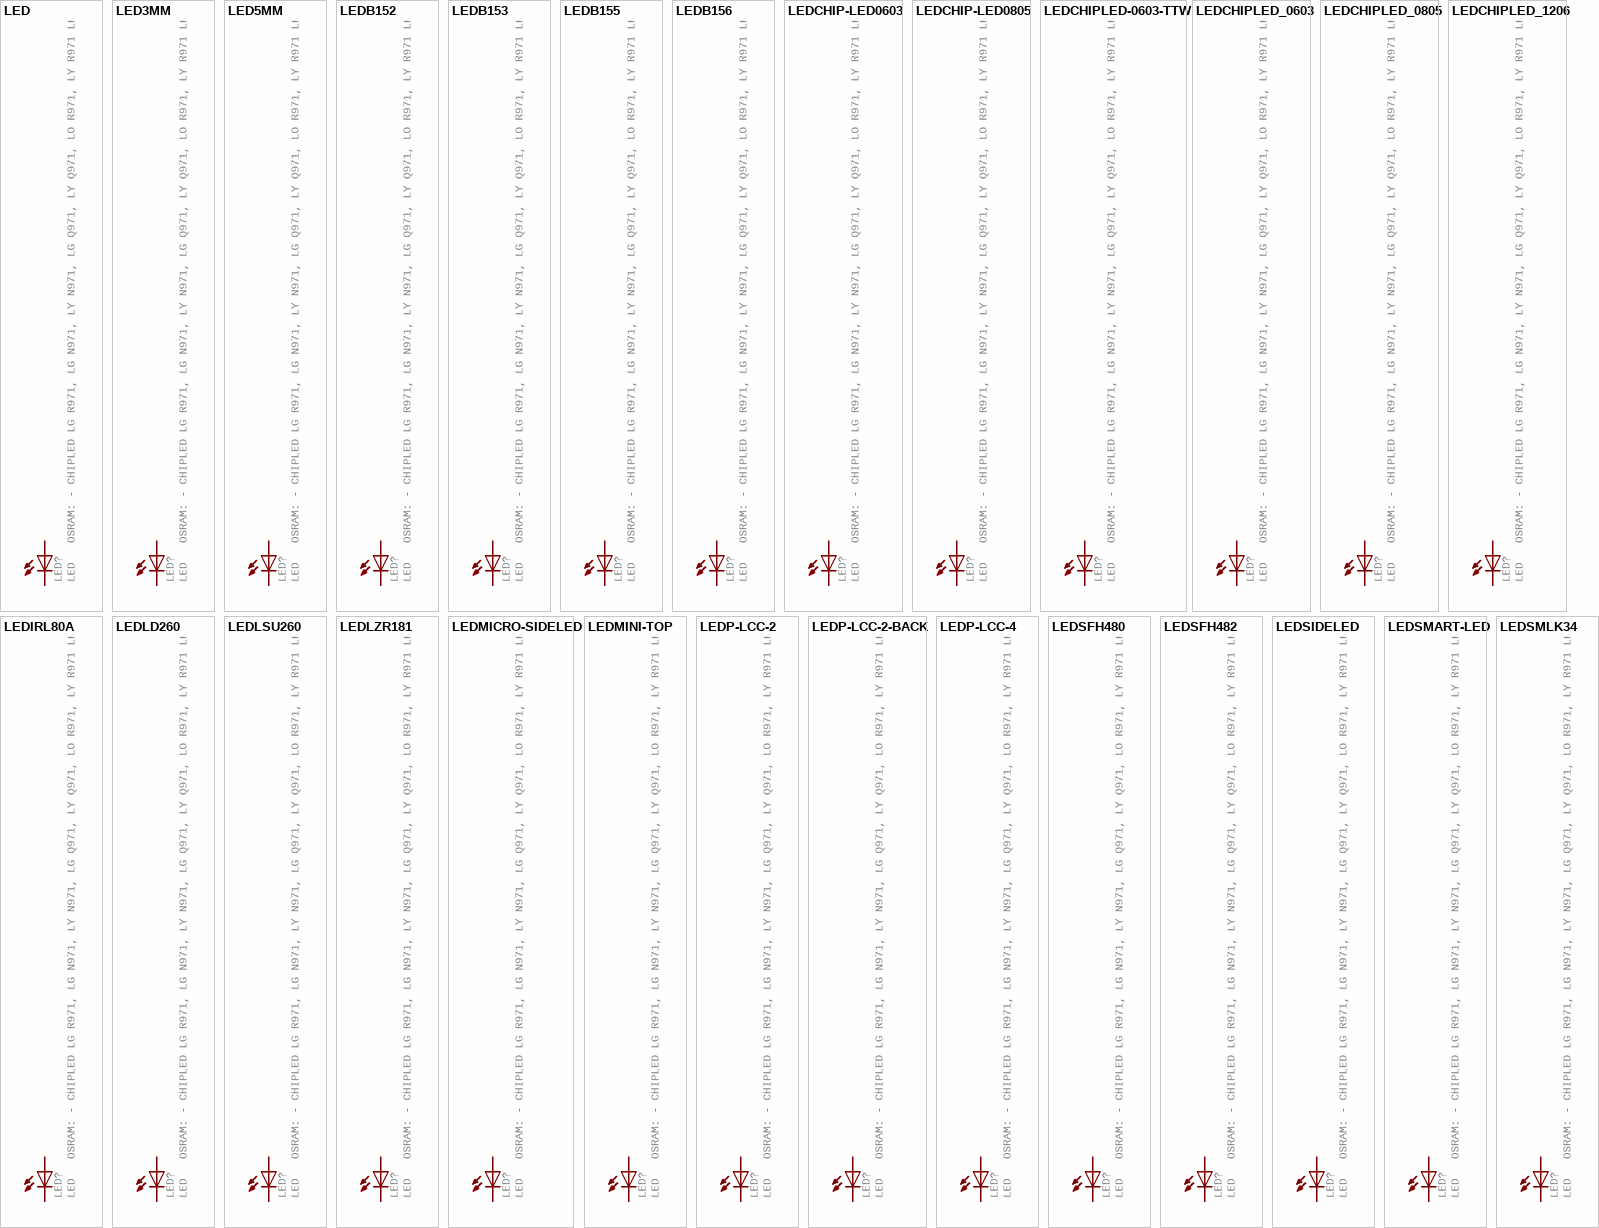
[diagram p17: symbols LED to LEDSMLK34]

## LED
designator LED?, comment LED   OSRAM: - CHIPLED LG R971, LG N971, LY N971, LG Q971, LY Q971, LO R971, LY R971 LH N974, LH R974 LS Q976, LO Q976, LY Q976 LO Q996 - Hyper CHIPLED LW Q18S LB Q993, LB Q99A, LB R99A - SideLED LS A670, LO A670, LY A670, LG A670, LP A670 LB A673, LV A673, LT A673, LW A673 LH A674 LY A675 LS A676, LA A676, LO A676, LY A676, LW A676 LS A679, LY A679, LG A679 -  Hyper Micro SIDELEDÂ® LS Y876, LA Y876, LO Y876, LY Y876 LT Y87S - SmartLED LW L88C, LW L88S LB L89C, LB L89S, LG L890 LS L89K, LO L89K, LY L89K LS L896, LA L896, LO L896, LY L896 - TOPLED LS T670, LO T670, LY T670, LG T670, LP T670 LSG T670, LSP T670, LSY T670, LOP T670, LYG T670 LG T671, LOG T671, LSG T671 LB T673, LV T673, LT T673, LW T673 LH T674 LS T676, LA T676, LO T676, LY T676, LB T676, LH T676, LSB T676, LW T676 LB T67C, LV T67C, LT T67C, LS T67K, LO T67K, LY T67K, LW E67C LS E67B, LA E67B, LO E67B, LY E67B, LB E67C, LV E67C, LT E67C LW T67C LS T679, LY T679, LG T679 LS T770, LO T770, LY T770, LG T770, LP T770 LB T773, LV T773, LT T773, LW T773 LH T774 LS E675, LA E675, LY E675, LS T675 LS T776, LA T776, LO T776, LY T776, LB T776 LHGB T686 LT T68C, LB T68C - Hyper Mini TOPLEDÂ® LB M676 - Mini TOPLED SantanaÂ® LG M470 LS M47K, LO M47K, LY M47K    Source: http://www.osram.convergy.de/
GateName_1: G$1; SymbolName_1: LED; LibraryName: adafruit; DeviceSetName: LED; Package: SMARTLED-TTW
footprint SMARTLED-TTW
pins: A@1 A, C@1 C

## LED3MM
designator LED?, comment LED   OSRAM: - CHIPLED LG R971, LG N971, LY N971, LG Q971, LY Q971, LO R971, LY R971 LH N974, LH R974 LS Q976, LO Q976, LY Q976 LO Q996 - Hyper CHIPLED LW Q18S LB Q993, LB Q99A, LB R99A - SideLED LS A670, LO A670, LY A670, LG A670, LP A670 LB A673, LV A673, LT A673, LW A673 LH A674 LY A675 LS A676, LA A676, LO A676, LY A676, LW A676 LS A679, LY A679, LG A679 -  Hyper Micro SIDELEDÂ® LS Y876, LA Y876, LO Y876, LY Y876 LT Y87S - SmartLED LW L88C, LW L88S LB L89C, LB L89S, LG L890 LS L89K, LO L89K, LY L89K LS L896, LA L896, LO L896, LY L896 - TOPLED LS T670, LO T670, LY T670, LG T670, LP T670 LSG T670, LSP T670, LSY T670, LOP T670, LYG T670 LG T671, LOG T671, LSG T671 LB T673, LV T673, LT T673, LW T673 LH T674 LS T676, LA T676, LO T676, LY T676, LB T676, LH T676, LSB T676, LW T676 LB T67C, LV T67C, LT T67C, LS T67K, LO T67K, LY T67K, LW E67C LS E67B, LA E67B, LO E67B, LY E67B, LB E67C, LV E67C, LT E67C LW T67C LS T679, LY T679, LG T679 LS T770, LO T770, LY T770, LG T770, LP T770 LB T773, LV T773, LT T773, LW T773 LH T774 LS E675, LA E675, LY E675, LS T675 LS T776, LA T776, LO T776, LY T776, LB T776 LHGB T686 LT T68C, LB T68C - Hyper Mini TOPLEDÂ® LB M676 - Mini TOPLED SantanaÂ® LG M470 LS M47K, LO M47K, LY M47K    Source: http://www.osram.convergy.de/
GateName_1: G$1; DeviceName: 3MM; SymbolName_1: LED; LibraryName: adafruit; DeviceSetName: LED; Package: LED3MM
footprint LED3MM
pins: A, K C

## LED5MM
designator LED?, comment LED   OSRAM: - CHIPLED LG R971, LG N971, LY N971, LG Q971, LY Q971, LO R971, LY R971 LH N974, LH R974 LS Q976, LO Q976, LY Q976 LO Q996 - Hyper CHIPLED LW Q18S LB Q993, LB Q99A, LB R99A - SideLED LS A670, LO A670, LY A670, LG A670, LP A670 LB A673, LV A673, LT A673, LW A673 LH A674 LY A675 LS A676, LA A676, LO A676, LY A676, LW A676 LS A679, LY A679, LG A679 -  Hyper Micro SIDELEDÂ® LS Y876, LA Y876, LO Y876, LY Y876 LT Y87S - SmartLED LW L88C, LW L88S LB L89C, LB L89S, LG L890 LS L89K, LO L89K, LY L89K LS L896, LA L896, LO L896, LY L896 - TOPLED LS T670, LO T670, LY T670, LG T670, LP T670 LSG T670, LSP T670, LSY T670, LOP T670, LYG T670 LG T671, LOG T671, LSG T671 LB T673, LV T673, LT T673, LW T673 LH T674 LS T676, LA T676, LO T676, LY T676, LB T676, LH T676, LSB T676, LW T676 LB T67C, LV T67C, LT T67C, LS T67K, LO T67K, LY T67K, LW E67C LS E67B, LA E67B, LO E67B, LY E67B, LB E67C, LV E67C, LT E67C LW T67C LS T679, LY T679, LG T679 LS T770, LO T770, LY T770, LG T770, LP T770 LB T773, LV T773, LT T773, LW T773 LH T774 LS E675, LA E675, LY E675, LS T675 LS T776, LA T776, LO T776, LY T776, LB T776 LHGB T686 LT T68C, LB T68C - Hyper Mini TOPLEDÂ® LB M676 - Mini TOPLED SantanaÂ® LG M470 LS M47K, LO M47K, LY M47K    Source: http://www.osram.convergy.de/
GateName_1: G$1; DeviceName: 5MM; SymbolName_1: LED; LibraryName: adafruit; DeviceSetName: LED; Package: LED5MM
footprint LED5MM
pins: A, K C

## LEDB152
designator LED?, comment LED   OSRAM: - CHIPLED LG R971, LG N971, LY N971, LG Q971, LY Q971, LO R971, LY R971 LH N974, LH R974 LS Q976, LO Q976, LY Q976 LO Q996 - Hyper CHIPLED LW Q18S LB Q993, LB Q99A, LB R99A - SideLED LS A670, LO A670, LY A670, LG A670, LP A670 LB A673, LV A673, LT A673, LW A673 LH A674 LY A675 LS A676, LA A676, LO A676, LY A676, LW A676 LS A679, LY A679, LG A679 -  Hyper Micro SIDELEDÂ® LS Y876, LA Y876, LO Y876, LY Y876 LT Y87S - SmartLED LW L88C, LW L88S LB L89C, LB L89S, LG L890 LS L89K, LO L89K, LY L89K LS L896, LA L896, LO L896, LY L896 - TOPLED LS T670, LO T670, LY T670, LG T670, LP T670 LSG T670, LSP T670, LSY T670, LOP T670, LYG T670 LG T671, LOG T671, LSG T671 LB T673, LV T673, LT T673, LW T673 LH T674 LS T676, LA T676, LO T676, LY T676, LB T676, LH T676, LSB T676, LW T676 LB T67C, LV T67C, LT T67C, LS T67K, LO T67K, LY T67K, LW E67C LS E67B, LA E67B, LO E67B, LY E67B, LB E67C, LV E67C, LT E67C LW T67C LS T679, LY T679, LG T679 LS T770, LO T770, LY T770, LG T770, LP T770 LB T773, LV T773, LT T773, LW T773 LH T774 LS E675, LA E675, LY E675, LS T675 LS T776, LA T776, LO T776, LY T776, LB T776 LHGB T686 LT T68C, LB T68C - Hyper Mini TOPLEDÂ® LB M676 - Mini TOPLED SantanaÂ® LG M470 LS M47K, LO M47K, LY M47K    Source: http://www.osram.convergy.de/
GateName_1: G$1; DeviceName: B152; SymbolName_1: LED; LibraryName: adafruit; DeviceSetName: LED; Package: Q62902-B152
footprint Q62902-B152
pins: A, K C

## LEDB153
designator LED?, comment LED   OSRAM: - CHIPLED LG R971, LG N971, LY N971, LG Q971, LY Q971, LO R971, LY R971 LH N974, LH R974 LS Q976, LO Q976, LY Q976 LO Q996 - Hyper CHIPLED LW Q18S LB Q993, LB Q99A, LB R99A - SideLED LS A670, LO A670, LY A670, LG A670, LP A670 LB A673, LV A673, LT A673, LW A673 LH A674 LY A675 LS A676, LA A676, LO A676, LY A676, LW A676 LS A679, LY A679, LG A679 -  Hyper Micro SIDELEDÂ® LS Y876, LA Y876, LO Y876, LY Y876 LT Y87S - SmartLED LW L88C, LW L88S LB L89C, LB L89S, LG L890 LS L89K, LO L89K, LY L89K LS L896, LA L896, LO L896, LY L896 - TOPLED LS T670, LO T670, LY T670, LG T670, LP T670 LSG T670, LSP T670, LSY T670, LOP T670, LYG T670 LG T671, LOG T671, LSG T671 LB T673, LV T673, LT T673, LW T673 LH T674 LS T676, LA T676, LO T676, LY T676, LB T676, LH T676, LSB T676, LW T676 LB T67C, LV T67C, LT T67C, LS T67K, LO T67K, LY T67K, LW E67C LS E67B, LA E67B, LO E67B, LY E67B, LB E67C, LV E67C, LT E67C LW T67C LS T679, LY T679, LG T679 LS T770, LO T770, LY T770, LG T770, LP T770 LB T773, LV T773, LT T773, LW T773 LH T774 LS E675, LA E675, LY E675, LS T675 LS T776, LA T776, LO T776, LY T776, LB T776 LHGB T686 LT T68C, LB T68C - Hyper Mini TOPLEDÂ® LB M676 - Mini TOPLED SantanaÂ® LG M470 LS M47K, LO M47K, LY M47K    Source: http://www.osram.convergy.de/
GateName_1: G$1; DeviceName: B153; SymbolName_1: LED; LibraryName: adafruit; DeviceSetName: LED; Package: Q62902-B153
footprint Q62902-B153
pins: A, K C

## LEDB155
designator LED?, comment LED   OSRAM: - CHIPLED LG R971, LG N971, LY N971, LG Q971, LY Q971, LO R971, LY R971 LH N974, LH R974 LS Q976, LO Q976, LY Q976 LO Q996 - Hyper CHIPLED LW Q18S LB Q993, LB Q99A, LB R99A - SideLED LS A670, LO A670, LY A670, LG A670, LP A670 LB A673, LV A673, LT A673, LW A673 LH A674 LY A675 LS A676, LA A676, LO A676, LY A676, LW A676 LS A679, LY A679, LG A679 -  Hyper Micro SIDELEDÂ® LS Y876, LA Y876, LO Y876, LY Y876 LT Y87S - SmartLED LW L88C, LW L88S LB L89C, LB L89S, LG L890 LS L89K, LO L89K, LY L89K LS L896, LA L896, LO L896, LY L896 - TOPLED LS T670, LO T670, LY T670, LG T670, LP T670 LSG T670, LSP T670, LSY T670, LOP T670, LYG T670 LG T671, LOG T671, LSG T671 LB T673, LV T673, LT T673, LW T673 LH T674 LS T676, LA T676, LO T676, LY T676, LB T676, LH T676, LSB T676, LW T676 LB T67C, LV T67C, LT T67C, LS T67K, LO T67K, LY T67K, LW E67C LS E67B, LA E67B, LO E67B, LY E67B, LB E67C, LV E67C, LT E67C LW T67C LS T679, LY T679, LG T679 LS T770, LO T770, LY T770, LG T770, LP T770 LB T773, LV T773, LT T773, LW T773 LH T774 LS E675, LA E675, LY E675, LS T675 LS T776, LA T776, LO T776, LY T776, LB T776 LHGB T686 LT T68C, LB T68C - Hyper Mini TOPLEDÂ® LB M676 - Mini TOPLED SantanaÂ® LG M470 LS M47K, LO M47K, LY M47K    Source: http://www.osram.convergy.de/
GateName_1: G$1; DeviceName: B155; SymbolName_1: LED; LibraryName: adafruit; DeviceSetName: LED; Package: Q62902-B155
footprint Q62902-B155
pins: A, K C

## LEDB156
designator LED?, comment LED   OSRAM: - CHIPLED LG R971, LG N971, LY N971, LG Q971, LY Q971, LO R971, LY R971 LH N974, LH R974 LS Q976, LO Q976, LY Q976 LO Q996 - Hyper CHIPLED LW Q18S LB Q993, LB Q99A, LB R99A - SideLED LS A670, LO A670, LY A670, LG A670, LP A670 LB A673, LV A673, LT A673, LW A673 LH A674 LY A675 LS A676, LA A676, LO A676, LY A676, LW A676 LS A679, LY A679, LG A679 -  Hyper Micro SIDELEDÂ® LS Y876, LA Y876, LO Y876, LY Y876 LT Y87S - SmartLED LW L88C, LW L88S LB L89C, LB L89S, LG L890 LS L89K, LO L89K, LY L89K LS L896, LA L896, LO L896, LY L896 - TOPLED LS T670, LO T670, LY T670, LG T670, LP T670 LSG T670, LSP T670, LSY T670, LOP T670, LYG T670 LG T671, LOG T671, LSG T671 LB T673, LV T673, LT T673, LW T673 LH T674 LS T676, LA T676, LO T676, LY T676, LB T676, LH T676, LSB T676, LW T676 LB T67C, LV T67C, LT T67C, LS T67K, LO T67K, LY T67K, LW E67C LS E67B, LA E67B, LO E67B, LY E67B, LB E67C, LV E67C, LT E67C LW T67C LS T679, LY T679, LG T679 LS T770, LO T770, LY T770, LG T770, LP T770 LB T773, LV T773, LT T773, LW T773 LH T774 LS E675, LA E675, LY E675, LS T675 LS T776, LA T776, LO T776, LY T776, LB T776 LHGB T686 LT T68C, LB T68C - Hyper Mini TOPLEDÂ® LB M676 - Mini TOPLED SantanaÂ® LG M470 LS M47K, LO M47K, LY M47K    Source: http://www.osram.convergy.de/
GateName_1: G$1; DeviceName: B156; SymbolName_1: LED; LibraryName: adafruit; DeviceSetName: LED; Package: Q62902-B156
footprint Q62902-B156
pins: A, K C

## LEDCHIP-LED0603
designator LED?, comment LED   OSRAM: - CHIPLED LG R971, LG N971, LY N971, LG Q971, LY Q971, LO R971, LY R971 LH N974, LH R974 LS Q976, LO Q976, LY Q976 LO Q996 - Hyper CHIPLED LW Q18S LB Q993, LB Q99A, LB R99A - SideLED LS A670, LO A670, LY A670, LG A670, LP A670 LB A673, LV A673, LT A673, LW A673 LH A674 LY A675 LS A676, LA A676, LO A676, LY A676, LW A676 LS A679, LY A679, LG A679 -  Hyper Micro SIDELEDÂ® LS Y876, LA Y876, LO Y876, LY Y876 LT Y87S - SmartLED LW L88C, LW L88S LB L89C, LB L89S, LG L890 LS L89K, LO L89K, LY L89K LS L896, LA L896, LO L896, LY L896 - TOPLED LS T670, LO T670, LY T670, LG T670, LP T670 LSG T670, LSP T670, LSY T670, LOP T670, LYG T670 LG T671, LOG T671, LSG T671 LB T673, LV T673, LT T673, LW T673 LH T674 LS T676, LA T676, LO T676, LY T676, LB T676, LH T676, LSB T676, LW T676 LB T67C, LV T67C, LT T67C, LS T67K, LO T67K, LY T67K, LW E67C LS E67B, LA E67B, LO E67B, LY E67B, LB E67C, LV E67C, LT E67C LW T67C LS T679, LY T679, LG T679 LS T770, LO T770, LY T770, LG T770, LP T770 LB T773, LV T773, LT T773, LW T773 LH T774 LS E675, LA E675, LY E675, LS T675 LS T776, LA T776, LO T776, LY T776, LB T776 LHGB T686 LT T68C, LB T68C - Hyper Mini TOPLEDÂ® LB M676 - Mini TOPLED SantanaÂ® LG M470 LS M47K, LO M47K, LY M47K    Source: http://www.osram.convergy.de/
GateName_1: G$1; DeviceName: CHIP-LED0603; SymbolName_1: LED; LibraryName: adafruit; DeviceSetName: LED; Package: CHIP-LED0603
footprint CHIP-LED0603
pins: A, C

## LEDCHIP-LED0805
designator LED?, comment LED   OSRAM: - CHIPLED LG R971, LG N971, LY N971, LG Q971, LY Q971, LO R971, LY R971 LH N974, LH R974 LS Q976, LO Q976, LY Q976 LO Q996 - Hyper CHIPLED LW Q18S LB Q993, LB Q99A, LB R99A - SideLED LS A670, LO A670, LY A670, LG A670, LP A670 LB A673, LV A673, LT A673, LW A673 LH A674 LY A675 LS A676, LA A676, LO A676, LY A676, LW A676 LS A679, LY A679, LG A679 -  Hyper Micro SIDELEDÂ® LS Y876, LA Y876, LO Y876, LY Y876 LT Y87S - SmartLED LW L88C, LW L88S LB L89C, LB L89S, LG L890 LS L89K, LO L89K, LY L89K LS L896, LA L896, LO L896, LY L896 - TOPLED LS T670, LO T670, LY T670, LG T670, LP T670 LSG T670, LSP T670, LSY T670, LOP T670, LYG T670 LG T671, LOG T671, LSG T671 LB T673, LV T673, LT T673, LW T673 LH T674 LS T676, LA T676, LO T676, LY T676, LB T676, LH T676, LSB T676, LW T676 LB T67C, LV T67C, LT T67C, LS T67K, LO T67K, LY T67K, LW E67C LS E67B, LA E67B, LO E67B, LY E67B, LB E67C, LV E67C, LT E67C LW T67C LS T679, LY T679, LG T679 LS T770, LO T770, LY T770, LG T770, LP T770 LB T773, LV T773, LT T773, LW T773 LH T774 LS E675, LA E675, LY E675, LS T675 LS T776, LA T776, LO T776, LY T776, LB T776 LHGB T686 LT T68C, LB T68C - Hyper Mini TOPLEDÂ® LB M676 - Mini TOPLED SantanaÂ® LG M470 LS M47K, LO M47K, LY M47K    Source: http://www.osram.convergy.de/
GateName_1: G$1; DeviceName: CHIP-LED0805; SymbolName_1: LED; LibraryName: adafruit; DeviceSetName: LED; Package: CHIP-LED0805
footprint CHIP-LED0805
pins: A, C

## LEDCHIPLED-0603-TTW
designator LED?, comment LED   OSRAM: - CHIPLED LG R971, LG N971, LY N971, LG Q971, LY Q971, LO R971, LY R971 LH N974, LH R974 LS Q976, LO Q976, LY Q976 LO Q996 - Hyper CHIPLED LW Q18S LB Q993, LB Q99A, LB R99A - SideLED LS A670, LO A670, LY A670, LG A670, LP A670 LB A673, LV A673, LT A673, LW A673 LH A674 LY A675 LS A676, LA A676, LO A676, LY A676, LW A676 LS A679, LY A679, LG A679 -  Hyper Micro SIDELEDÂ® LS Y876, LA Y876, LO Y876, LY Y876 LT Y87S - SmartLED LW L88C, LW L88S LB L89C, LB L89S, LG L890 LS L89K, LO L89K, LY L89K LS L896, LA L896, LO L896, LY L896 - TOPLED LS T670, LO T670, LY T670, LG T670, LP T670 LSG T670, LSP T670, LSY T670, LOP T670, LYG T670 LG T671, LOG T671, LSG T671 LB T673, LV T673, LT T673, LW T673 LH T674 LS T676, LA T676, LO T676, LY T676, LB T676, LH T676, LSB T676, LW T676 LB T67C, LV T67C, LT T67C, LS T67K, LO T67K, LY T67K, LW E67C LS E67B, LA E67B, LO E67B, LY E67B, LB E67C, LV E67C, LT E67C LW T67C LS T679, LY T679, LG T679 LS T770, LO T770, LY T770, LG T770, LP T770 LB T773, LV T773, LT T773, LW T773 LH T774 LS E675, LA E675, LY E675, LS T675 LS T776, LA T776, LO T776, LY T776, LB T776 LHGB T686 LT T68C, LB T68C - Hyper Mini TOPLEDÂ® LB M676 - Mini TOPLED SantanaÂ® LG M470 LS M47K, LO M47K, LY M47K    Source: http://www.osram.convergy.de/
GateName_1: G$1; DeviceName: CHIPLED-0603-TTW; SymbolName_1: LED; LibraryName: adafruit; DeviceSetName: LED; Package: CHIPLED-0603-TTW
footprint CHIPLED-0603-TTW
pins: A@1 A, C@1 C

## LEDCHIPLED_0603
designator LED?, comment LED   OSRAM: - CHIPLED LG R971, LG N971, LY N971, LG Q971, LY Q971, LO R971, LY R971 LH N974, LH R974 LS Q976, LO Q976, LY Q976 LO Q996 - Hyper CHIPLED LW Q18S LB Q993, LB Q99A, LB R99A - SideLED LS A670, LO A670, LY A670, LG A670, LP A670 LB A673, LV A673, LT A673, LW A673 LH A674 LY A675 LS A676, LA A676, LO A676, LY A676, LW A676 LS A679, LY A679, LG A679 -  Hyper Micro SIDELEDÂ® LS Y876, LA Y876, LO Y876, LY Y876 LT Y87S - SmartLED LW L88C, LW L88S LB L89C, LB L89S, LG L890 LS L89K, LO L89K, LY L89K LS L896, LA L896, LO L896, LY L896 - TOPLED LS T670, LO T670, LY T670, LG T670, LP T670 LSG T670, LSP T670, LSY T670, LOP T670, LYG T670 LG T671, LOG T671, LSG T671 LB T673, LV T673, LT T673, LW T673 LH T674 LS T676, LA T676, LO T676, LY T676, LB T676, LH T676, LSB T676, LW T676 LB T67C, LV T67C, LT T67C, LS T67K, LO T67K, LY T67K, LW E67C LS E67B, LA E67B, LO E67B, LY E67B, LB E67C, LV E67C, LT E67C LW T67C LS T679, LY T679, LG T679 LS T770, LO T770, LY T770, LG T770, LP T770 LB T773, LV T773, LT T773, LW T773 LH T774 LS E675, LA E675, LY E675, LS T675 LS T776, LA T776, LO T776, LY T776, LB T776 LHGB T686 LT T68C, LB T68C - Hyper Mini TOPLEDÂ® LB M676 - Mini TOPLED SantanaÂ® LG M470 LS M47K, LO M47K, LY M47K    Source: http://www.osram.convergy.de/
GateName_1: G$1; DeviceName: CHIPLED_0603; SymbolName_1: LED; LibraryName: adafruit; DeviceSetName: LED; Package: CHIPLED_0603
footprint CHIPLED_0603
pins: A, C

## LEDCHIPLED_0805
designator LED?, comment LED   OSRAM: - CHIPLED LG R971, LG N971, LY N971, LG Q971, LY Q971, LO R971, LY R971 LH N974, LH R974 LS Q976, LO Q976, LY Q976 LO Q996 - Hyper CHIPLED LW Q18S LB Q993, LB Q99A, LB R99A - SideLED LS A670, LO A670, LY A670, LG A670, LP A670 LB A673, LV A673, LT A673, LW A673 LH A674 LY A675 LS A676, LA A676, LO A676, LY A676, LW A676 LS A679, LY A679, LG A679 -  Hyper Micro SIDELEDÂ® LS Y876, LA Y876, LO Y876, LY Y876 LT Y87S - SmartLED LW L88C, LW L88S LB L89C, LB L89S, LG L890 LS L89K, LO L89K, LY L89K LS L896, LA L896, LO L896, LY L896 - TOPLED LS T670, LO T670, LY T670, LG T670, LP T670 LSG T670, LSP T670, LSY T670, LOP T670, LYG T670 LG T671, LOG T671, LSG T671 LB T673, LV T673, LT T673, LW T673 LH T674 LS T676, LA T676, LO T676, LY T676, LB T676, LH T676, LSB T676, LW T676 LB T67C, LV T67C, LT T67C, LS T67K, LO T67K, LY T67K, LW E67C LS E67B, LA E67B, LO E67B, LY E67B, LB E67C, LV E67C, LT E67C LW T67C LS T679, LY T679, LG T679 LS T770, LO T770, LY T770, LG T770, LP T770 LB T773, LV T773, LT T773, LW T773 LH T774 LS E675, LA E675, LY E675, LS T675 LS T776, LA T776, LO T776, LY T776, LB T776 LHGB T686 LT T68C, LB T68C - Hyper Mini TOPLEDÂ® LB M676 - Mini TOPLED SantanaÂ® LG M470 LS M47K, LO M47K, LY M47K    Source: http://www.osram.convergy.de/
GateName_1: G$1; DeviceName: CHIPLED_0805; SymbolName_1: LED; LibraryName: adafruit; DeviceSetName: LED; Package: CHIPLED_0805
footprint CHIPLED_0805
pins: A, C

## LEDCHIPLED_1206
designator LED?, comment LED   OSRAM: - CHIPLED LG R971, LG N971, LY N971, LG Q971, LY Q971, LO R971, LY R971 LH N974, LH R974 LS Q976, LO Q976, LY Q976 LO Q996 - Hyper CHIPLED LW Q18S LB Q993, LB Q99A, LB R99A - SideLED LS A670, LO A670, LY A670, LG A670, LP A670 LB A673, LV A673, LT A673, LW A673 LH A674 LY A675 LS A676, LA A676, LO A676, LY A676, LW A676 LS A679, LY A679, LG A679 -  Hyper Micro SIDELEDÂ® LS Y876, LA Y876, LO Y876, LY Y876 LT Y87S - SmartLED LW L88C, LW L88S LB L89C, LB L89S, LG L890 LS L89K, LO L89K, LY L89K LS L896, LA L896, LO L896, LY L896 - TOPLED LS T670, LO T670, LY T670, LG T670, LP T670 LSG T670, LSP T670, LSY T670, LOP T670, LYG T670 LG T671, LOG T671, LSG T671 LB T673, LV T673, LT T673, LW T673 LH T674 LS T676, LA T676, LO T676, LY T676, LB T676, LH T676, LSB T676, LW T676 LB T67C, LV T67C, LT T67C, LS T67K, LO T67K, LY T67K, LW E67C LS E67B, LA E67B, LO E67B, LY E67B, LB E67C, LV E67C, LT E67C LW T67C LS T679, LY T679, LG T679 LS T770, LO T770, LY T770, LG T770, LP T770 LB T773, LV T773, LT T773, LW T773 LH T774 LS E675, LA E675, LY E675, LS T675 LS T776, LA T776, LO T776, LY T776, LB T776 LHGB T686 LT T68C, LB T68C - Hyper Mini TOPLEDÂ® LB M676 - Mini TOPLED SantanaÂ® LG M470 LS M47K, LO M47K, LY M47K    Source: http://www.osram.convergy.de/
GateName_1: G$1; DeviceName: CHIPLED_1206; SymbolName_1: LED; LibraryName: adafruit; DeviceSetName: LED; Package: CHIPLED_1206
footprint CHIPLED_1206
pins: A, C